# Altium schematic symbol library Harry_SCH_lib.SchLib: 167 symbols
Pins are listed as number, name and electrical type; pins without a type are passive.

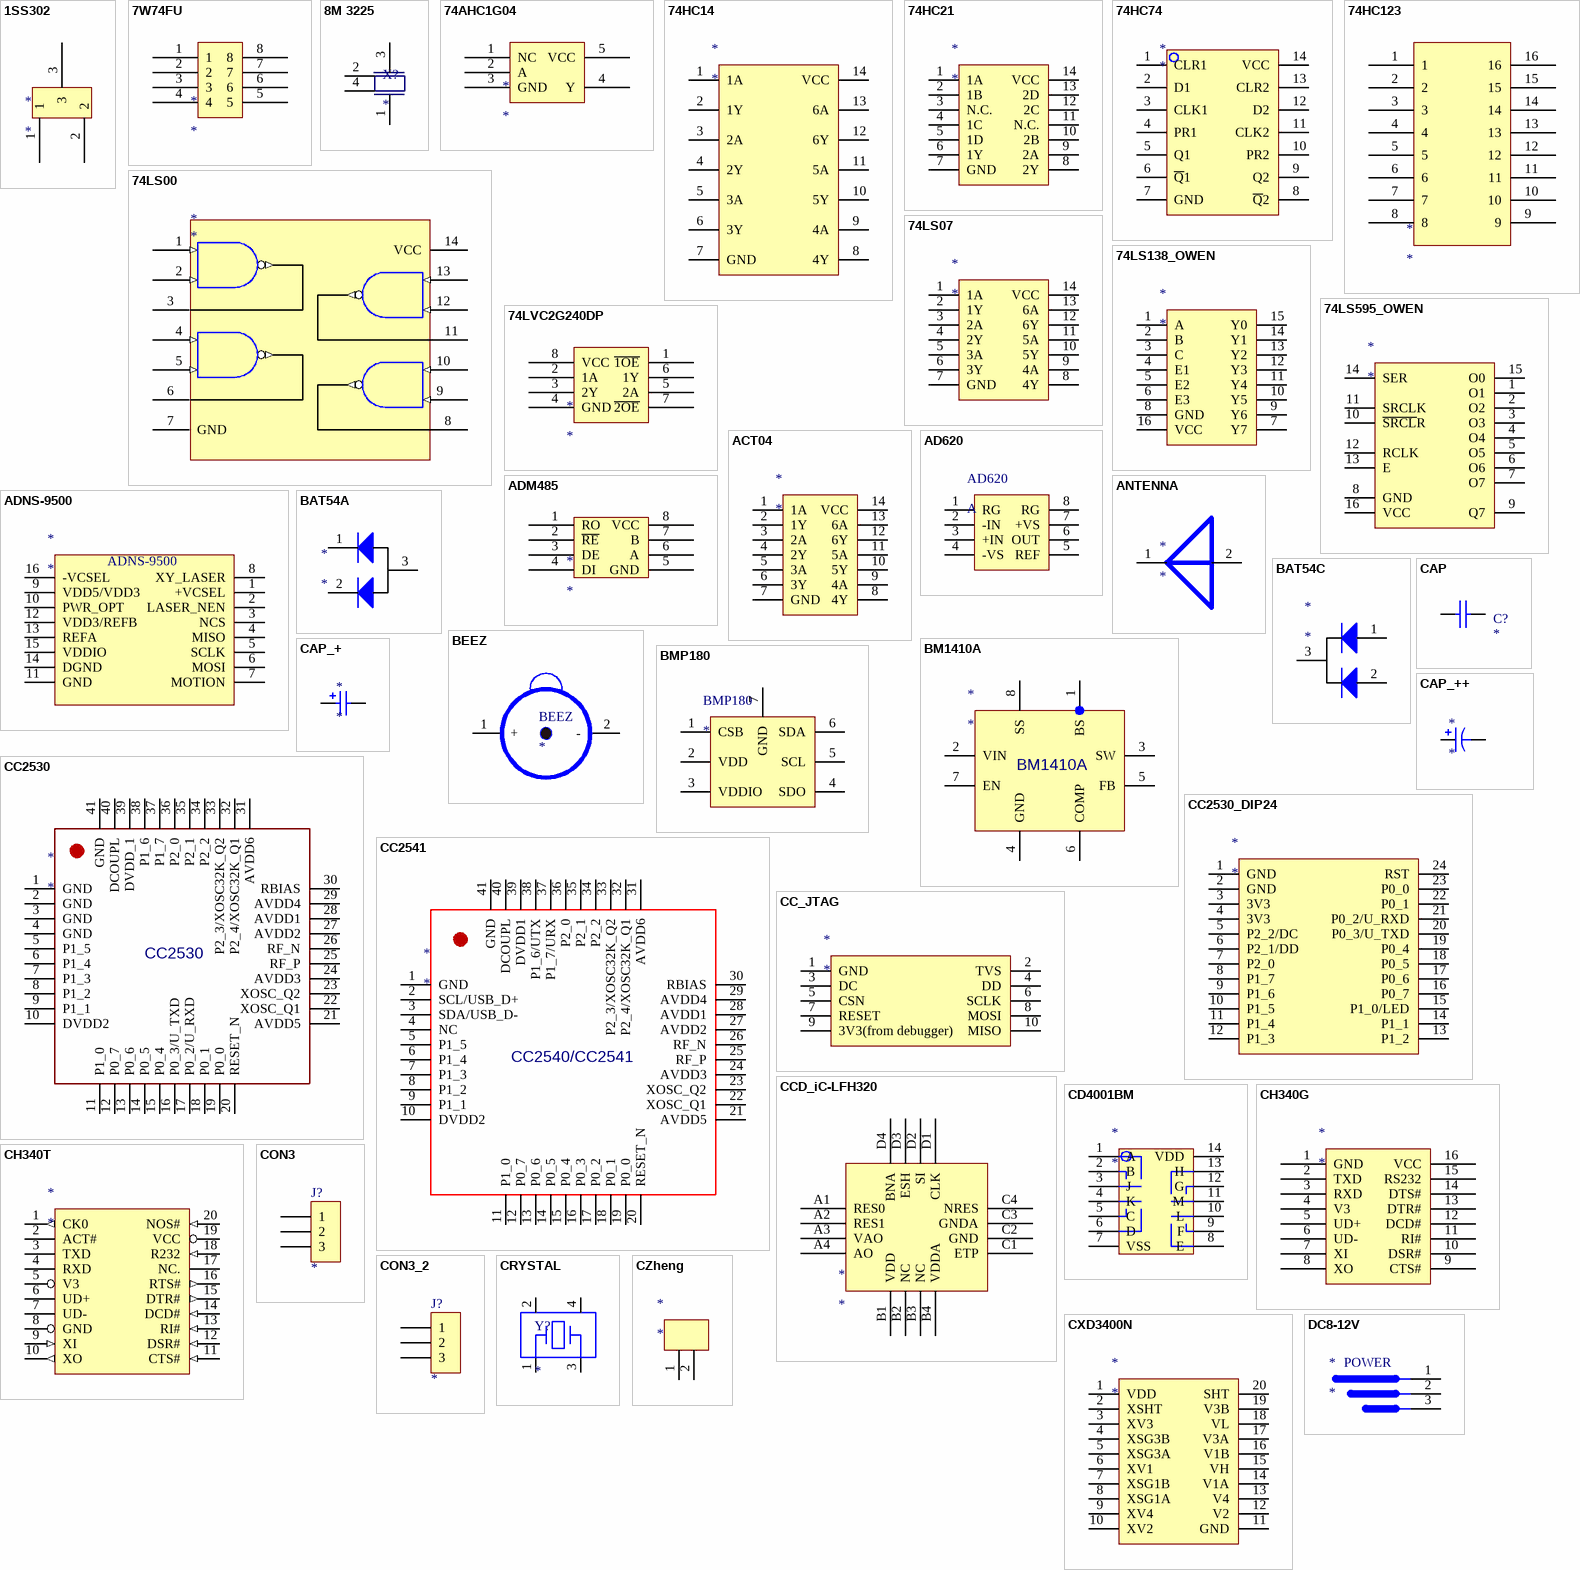
[diagram p0: symbols 1SS302 to DC8-12V]

## 1SS302
designator *
pins: 1, 2, 3

## 7W74FU
designator *
pins: 1, 2, 3, 4, 5, 6, 7, 8

## 8M 3225
designator X?
pins: 1, 2, 3, 4

## 74AHC1G04
designator *
pins: 1 NC, 2 A, 3 GND, 4 Y, 5 VCC

## 74HC14
designator *
footprint Model Name (Footprint not found)
pins: 1 1A, 2 1Y, 3 2A, 4 2Y, 5 3A, 6 3Y, 7 GND, 8 4Y, 9 4A, 10 5Y, 11 5A, 12 6Y, 13 6A, 14 VCC

## 74HC21
designator *
footprint SOP-14
pins: 1 1A, 2 1B, 3 N.C., 4 1C, 5 1D, 6 1Y, 7 GND, 8 2Y, 9 2A, 10 2B, 11 N.C., 12 2C, 13 2D, 14 VCC

## 74HC74
designator *
footprint Model Name (Footprint not found)
pins: 1 CLR1, 2 D1, 3 CLK1, 4 PR1, 5 Q1, 6 ~{Q}1, 7 GND, 8 ~{Q}2, 9 Q2, 10 PR2, 11 CLK2, 12 D2, 13 CLR2, 14 VCC

## 74HC123
designator *
pins: 1, 2, 3, 4, 5, 6, 7, 8, 9, 10, 11, 12, 13, 14, 15, 16

## 74LS00
designator *
footprint Model Name (Footprint not found)
pins: 1 (in), 2 (in), 3 6.5, 4 (in), 5 (in), 6, 7 GND, 8, 9 (in), 10 (in), 11, 12 (in), 13 (in), 14 VCC, ?1 (out), ?2 (out), ?3 (out), ?4 (out)

## 74LS07
designator *
pins: 1 1A, 2 1Y, 3 2A, 4 2Y, 5 3A, 6 3Y, 7 GND, 8 4Y, 9 4A, 10 5Y, 11 5A, 12 6Y, 13 6A, 14 VCC

## 74LS138_OWEN
designator *
footprint Model Name (Footprint not found)
pins: 1 A, 2 B, 3 C, 4 E1, 5 E2, 6 E3, 7 Y7, 8 GND, 9 Y6, 10 Y5, 11 Y4, 12 Y3, 13 Y2, 14 Y1, 15 Y0, 16 VCC

## 74LS595_OWEN
designator *
footprint Model Name (Footprint not found)
pins: 1 O1, 2 O2, 3 O3, 4 O4, 5 O5, 6 O6, 7 O7, 8 GND, 9 Q7, 10 ~{SRCL}R, 11 SRCLK, 12 RCLK, 13 E, 14 SER, 15 O0, 16 VCC

## 74LVC2G240DP
designator *
pins: 1 ~{1OE}, 2 1A, 3 2Y, 4 GND, 5 2A, 6 1Y, 7 ~{2OE}, 8 VCC

## ACT04
designator *
pins: 1 1A, 2 1Y, 3 2A, 4 2Y, 5 3A, 6 3Y, 7 GND, 8 4Y, 9 4A, 10 5Y, 11 5A, 12 6Y, 13 6A, 14 VCC

## AD620
designator AD620, comment A
pins: 1 RG, 2 -IN, 3 +IN, 4 -VS, 5 REF, 6 OUT, 7 +VS, 8 RG

## ADM485
designator *
pins: 1 RO, 2 ~{RE}, 3 DE, 4 DI, 5 GND, 6 A, 7 B, 8 VCC

## ADNS-9500
designator *
pins: 1 +VCSEL, 2 LASER_NEN, 3 NCS, 4 MISO, 5 SCLK, 6 MOSI, 7 MOTION, 8 XY_LASER, 9 VDD5/VDD3, 10 PWR_OPT, 11 GND, 12 VDD3/REFB, 13 REFA, 14 DGND, 15 VDDIO, 16 -VCSEL

## ANTENNA
designator *
pins: 1, 2

## BAT54A
designator *
pins: 1 Anode, 2 Anode, 3 Cathode

## BAT54C
designator *
pins: 1 Anode, 2 Anode, 3 Cathode

## BEEZ
designator BEEZ
pins: 1 +, 2 -

## BM1410A
designator *
pins: 1 BS, 2 VIN, 3 SW, 4 GND, 5 FB, 6 COMP, 7 EN, 8 SS

## BMP180
designator BMP180
pins: 1 CSB, 2 VDD, 3 VDDIO, 4 SDO, 5 SCL, 6 SDA, 7 GND

## CAP
designator C?
Capacitor
footprint Model Name (Footprint not found)
pins: 1, 2

## CAP_+
designator *
footprint Model Name (Footprint not found)
pins: 1, 2

## CAP_++
designator *
footprint Model Name (Footprint not found)
pins: 1, 2

## CC2530
designator *
pins: 1 GND, 2 GND, 3 GND, 4 GND, 5 P1_5, 6 P1_4, 7 P1_3, 8 P1_2, 9 P1_1, 10 DVDD2, 11 P1_0, 12 P0_7, 13 P0_6, 14 P0_5, 15 P0_4, 16 P0_3/U_TXD, 17 P0_2/U_RXD, 18 P0_1, 19 P0_0, 20 RESET_N, 21 AVDD5, 22 XOSC_Q1, 23 XOSC_Q2, 24 AVDD3, 25 RF_P, 26 RF_N, 27 AVDD2, 28 AVDD1, 29 AVDD4, 30 RBIAS, 31 AVDD6, 32 P2_4/XOSC32K_Q1, 33 P2_3/XOSC32K_Q2, 34 P2_2, 35 P2_1, 36 P2_0, 37 P1_7, 38 P1_6, 39 DVDD_1, 40 DCOUPL, 41 GND

## CC2530_DIP24
designator *
footprint CC2530PA_DIP24
pins: 1 GND, 2 GND, 3 3V3, 4 3V3, 5 P2_2/DC, 6 P2_1/DD, 7 P2_0, 8 P1_7, 9 P1_6, 10 P1_5, 11 P1_4, 12 P1_3, 13 P1_2, 14 P1_1, 15 P1_0/LED, 16 P0_7, 17 P0_6, 18 P0_5, 19 P0_4, 20 P0_3/U_TXD, 21 P0_2/U_RXD, 22 P0_1, 23 P0_0, 24 RST

## CC2541
designator *
pins: 1 GND, 2 SCL/USB_D+, 3 SDA/USB_D-, 4 NC, 5 P1_5, 6 P1_4, 7 P1_3, 8 P1_2, 9 P1_1, 10 DVDD2, 11 P1_0, 12 P0_7, 13 P0_6, 14 P0_5, 15 P0_4, 16 P0_3, 17 P0_2, 18 P0_1, 19 P0_0, 20 RESET_N, 21 AVDD5, 22 XOSC_Q1, 23 XOSC_Q2, 24 AVDD3, 25 RF_P, 26 RF_N, 27 AVDD2, 28 AVDD1, 29 AVDD4, 30 RBIAS, 31 AVDD6, 32 P2_4/XOSC32K_Q1, 33 P2_3/XOSC32K_Q2, 34 P2_2, 35 P2_1, 36 P2_0, 37 P1_7/URX, 38 P1_6/UTX, 39 DVDD1, 40 DCOUPL, 41 GND
text: CC2540/CC2541

## CC_JTAG
designator *
pins: 1 GND, 2 TVS, 3 DC, 4 DD, 5 CSN, 6 SCLK, 7 RESET, 8 MOSI, 9 3V3(from debugger), 10 MISO

## CCD_iC-LFH320
designator *
pins: A1 RES0, A2 RES1, A3 VAO, A4 AO, B1 VDD, B2 NC, B3 NC, B4 VDDA, C1 ETP, C2 GND, C3 GNDA, C4 NRES, D1 CLK, D2 SI, D3 ESH, D4 BNA

## CD4001BM
designator *
pins: 1 A, 2 B, 3 J, 4 K, 5 C, 6 D, 7 VSS, 8 E, 9 F, 10 L, 11 M, 12 G, 13 H, 14 VDD

## CH340G
designator *
pins: 1 GND, 2 TXD, 3 RXD, 4 V3, 5 UD+, 6 UD-, 7 XI, 8 XO, 9 CTS#, 10 DSR#, 11 RI#, 12 DCD#, 13 DTR#, 14 DTS#, 15 RS232, 16 VCC

## CH340T
designator *
pins: 1 CK0 (out), 2 ACT#, 3 TXD, 4 RXD, 5 V3 (power), 6 UD+, 7 UD-, 8 GND (power), 9 XI (in), 10 XO (out), 11 CTS# (in), 12 DSR# (in), 13 RI# (in), 14 DCD# (in), 15 DTR# (out), 16 RTS# (out), 17 NC., 18 R232 (in), 19 VCC (power), 20 NOS# (in)

## CON3
designator J?
Connector
pins: 1, 2, 3

## CON3_2
designator J?
Connector
pins: 1, 2, 3

## CRYSTAL
designator Y?
Crystal
pins: 1, 2, 3, 4

## CXD3400N
designator *
pins: 1 VDD, 2 XSHT, 3 XV3, 4 XSG3B, 5 XSG3A, 6 XV1, 7 XSG1B, 8 XSG1A, 9 XV4, 10 XV2, 11 GND, 12 V2, 13 V4, 14 V1A, 15 VH, 16 V1B, 17 V3A, 18 VL, 19 V3B, 20 SHT

## CZheng
designator *
pins: 1 28, 2 29

## DC8-12V
designator *
pins: 1, 2, 3
text: POWER

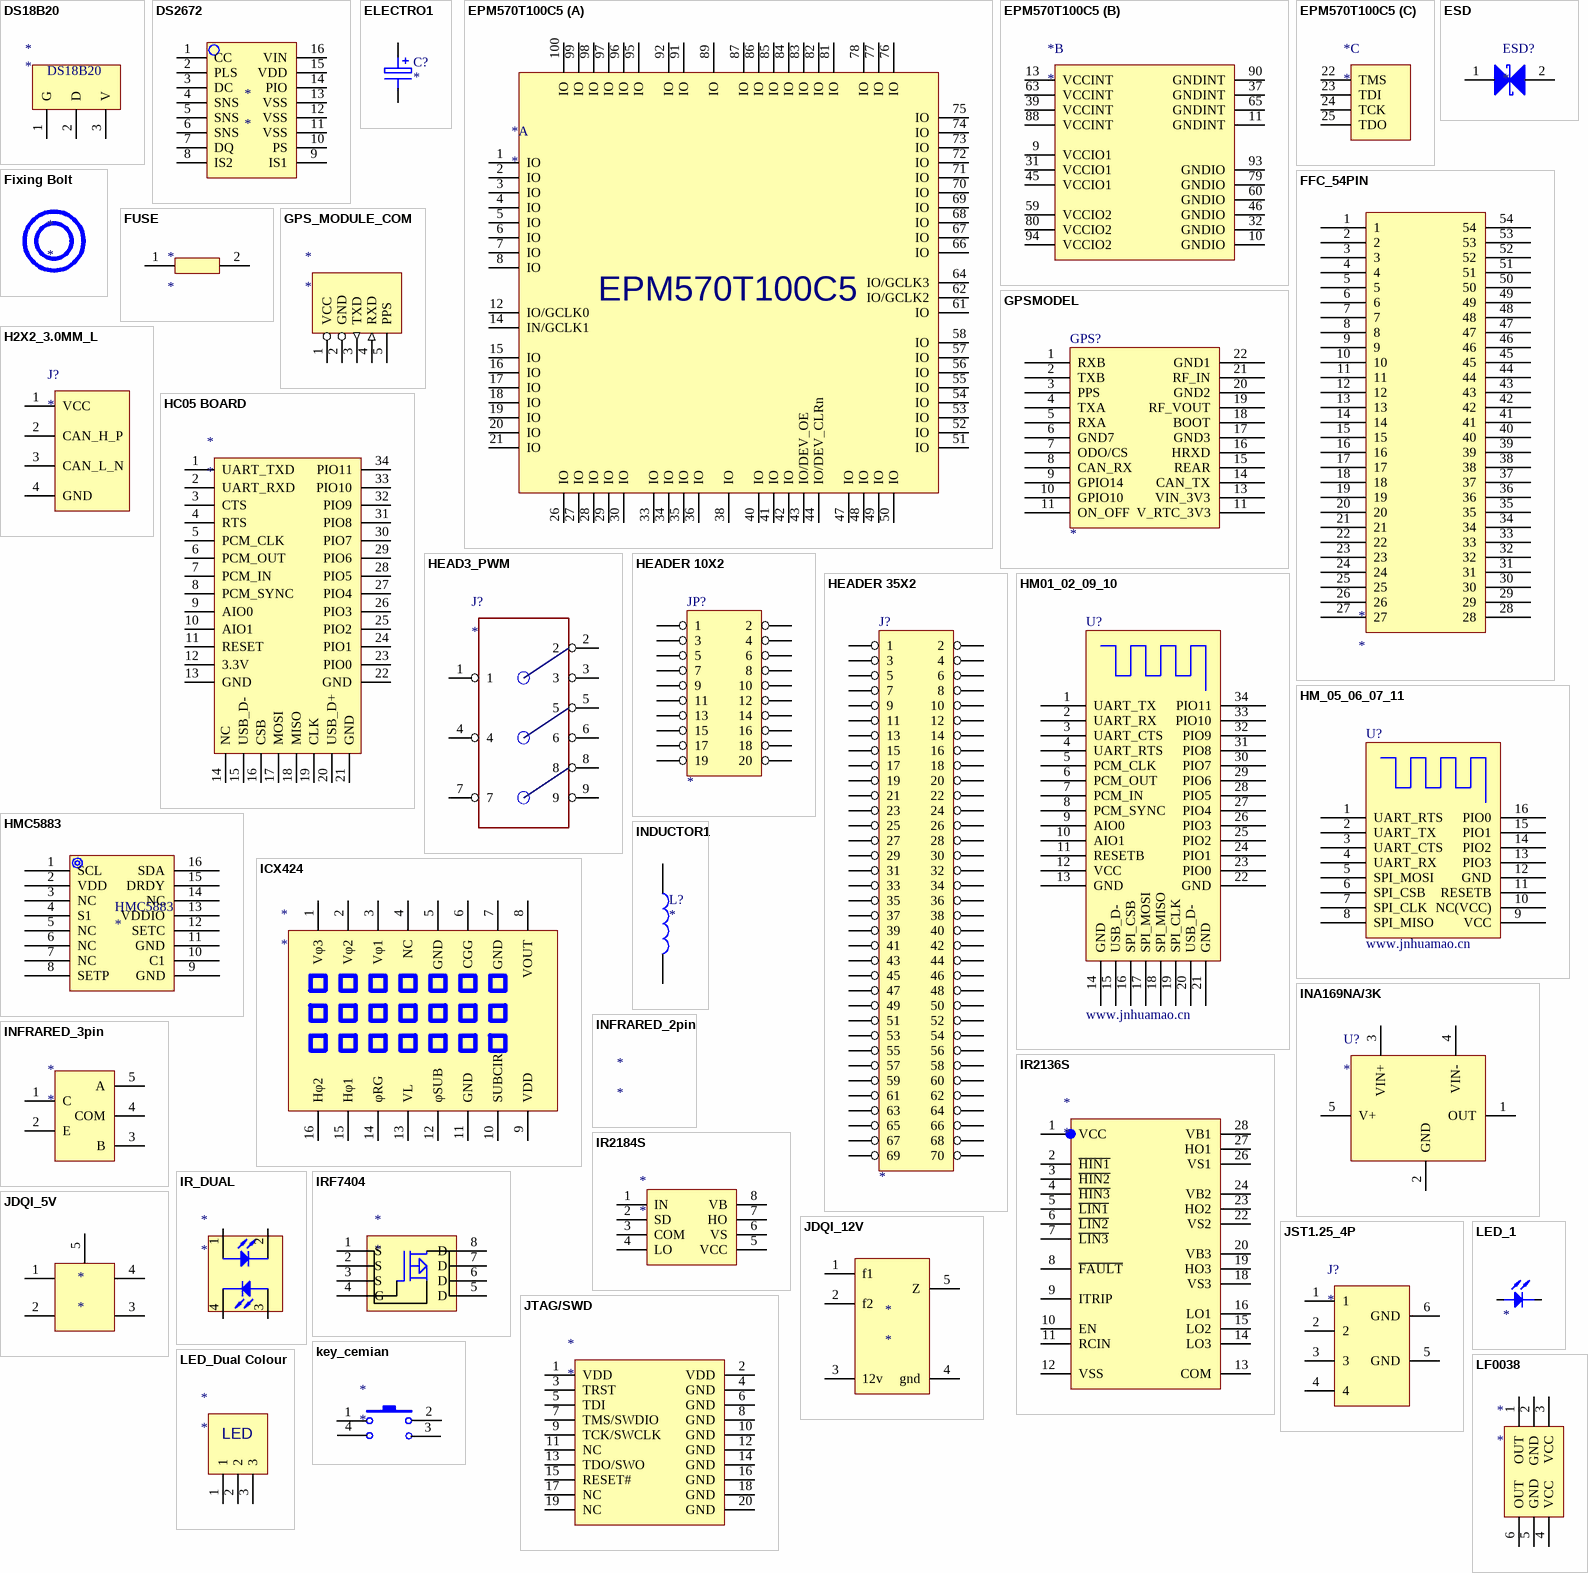
[diagram p1: symbols DS18B20 to LF0038]

## DS18B20
designator *
pins: 1 G, 2 D, 3 V

## DS2672
designator *
pins: 1 CC, 2 PLS, 3 DC, 4 SNS, 5 SNS, 6 SNS, 7 DQ, 8 IS2, 9 IS1, 10 PS, 11 VSS, 12 VSS, 13 VSS, 14 PIO, 15 VDD, 16 VIN

## ELECTRO1
designator C?
Electrolytic Capacitor
pins: 1, 2

## EPM570T100C5
designator *
part A pins: 1 IO, 2 IO, 3 IO, 4 IO, 5 IO, 6 IO, 7 IO, 8 IO, 12 IO/GCLK0, 14 IN/GCLK1, 15 IO, 16 IO, 17 IO, 18 IO, 19 IO, 20 IO, 21 IO, 26 IO, 27 IO, 28 IO, 29 IO, 30 IO, 33 IO, 34 IO, 35 IO, 36 IO, 38 IO, 40 IO, 41 IO, 42 IO, 43 IO/DEV_OE, 44 IO/DEV_CLRn, 47 IO, 48 IO, 49 IO, 50 IO, 51 IO, 52 IO, 53 IO, 54 IO, 55 IO, 56 IO, 57 IO, 58 IO, 61 IO, 62 IO/GCLK2, 64 IO/GCLK3, 66 IO, 67 IO, 68 IO, 69 IO, 70 IO, 71 IO, 72 IO, 73 IO, 74 IO, 75 IO, 76 IO, 77 IO, 78 IO, 81 IO, 82 IO, 83 IO, 84 IO, 85 IO, 86 IO, 87 IO, 89 IO, 91 IO, 92 IO, 95 IO, 96 IO, 97 IO, 98 IO, 99 IO, 100 IO
part B pins: 9 VCCIO1, 10 GNDIO, 11 GNDINT, 13 VCCINT, 31 VCCIO1, 32 GNDIO, 37 GNDINT, 39 VCCINT, 45 VCCIO1, 46 GNDIO, 59 VCCIO2, 60 GNDIO, 63 VCCINT, 65 GNDINT, 79 GNDIO, 80 VCCIO2, 88 VCCINT, 90 GNDINT, 93 GNDIO, 94 VCCIO2
part C pins: 22 TMS, 23 TDI, 24 TCK, 25 TDO

## ESD
designator ESD?
pins: 1, 2

## FFC_54PIN
designator *
pins: 1, 2, 3, 4, 5, 6, 7, 8, 9, 10, 11, 12, 13, 14, 15, 16, 17, 18, 19, 20, 21, 22, 23, 24, 25, 26, 27, 28, 29, 30, 31, 32, 33, 34, 35, 36, 37, 38, 39, 40, 41, 42, 43, 44, 45, 46, 47, 48, 49, 50, 51, 52, 53, 54

## Fixing Bolt
designator *

## FUSE
designator *
pins: 1 26, 2 27

## GPS_MODULE_COM
designator *
pins: 1 VCC (power), 2 GND, 3 TXD (out), 4 RXD (in), 5 PPS

## GPSMODEL
designator GPS?
GPSMODEL
pins: 1 RXB, 2 TXB, 3 PPS, 4 TXA, 5 RXA, 6 GND7, 7 ODO/CS, 8 CAN_RX, 9 GPIO14, 10 GPIO10, 11 V_RTC_3V3, 11 ON_OFF, 13 VIN_3V3, 14 CAN_TX, 15 REAR, 16 HRXD, 17 GND3, 18 BOOT, 19 RF_VOUT, 20 GND2, 21 RF_IN, 22 GND1

## H2X2_3.0MM_L
designator J?
pins: 1 VCC, 2 CAN_H_P, 3 CAN_L_N, 4 GND

## HC05 BOARD
designator *
pins: 1 UART_TXD, 2 UART_RXD, 3 CTS, 4 RTS, 5 PCM_CLK, 6 PCM_OUT, 7 PCM_IN, 8 PCM_SYNC, 9 AIO0, 10 AIO1, 11 RESET, 12 3.3V, 13 GND, 14 NC, 15 USB_D-, 16 CSB, 17 MOSI, 18 MISO, 19 CLK, 20 USB_D+, 21 GND, 22 GND, 23 PIO0, 24 PIO1, 25 PIO2, 26 PIO3, 27 PIO4, 28 PIO5, 29 PIO6, 30 PIO7, 31 PIO8, 32 PIO9, 33 PIO10, 34 PIO11

## HEAD3_PWM
designator J?
pins: 1, 2, 3, 4, 5, 6, 7, 8, 9

## HEADER 10X2
designator JP?
pins: 1, 2, 3, 4, 5, 6, 7, 8, 9, 10, 11, 12, 13, 14, 15, 16, 17, 18, 19, 20

## HEADER 35X2
designator J?
footprint DIP70
pins: 1, 2, 3, 4, 5, 6, 7, 8, 9, 10, 11, 12, 13, 14, 15, 16, 17, 18, 19, 20, 21, 22, 23, 24, 25, 26, 27, 28, 29, 30, 31, 32, 33, 34, 35, 36, 37, 38, 39, 40, 41, 42, 43, 44, 45, 46, 47, 48, 49, 50, 51, 52, 53, 54, 55, 56, 57, 58, 59, 60, 61, 62, 63, 64, 65, 66, 67, 68, 69, 70

## HM01_02_09_10
designator U?, comment www.jnhuamao.cn
HM bluetooth module HM-01,HM-02,HM-09,HM-10
pins: 1 UART_TX, 2 UART_RX, 3 UART_CTS, 4 UART_RTS, 5 PCM_CLK, 6 PCM_OUT, 7 PCM_IN, 8 PCM_SYNC, 9 AIO0, 10 AIO1, 11 RESETB, 12 VCC, 13 GND, 14 GND, 15 USB_D-, 16 SPI_CSB, 17 SPI_MOSI, 18 SPI_MISO, 19 SPI_CLK, 20 USB_D-, 21 GND, 22 GND, 23 PIO0, 24 PIO1, 25 PIO2, 26 PIO3, 27 PIO4, 28 PIO5, 29 PIO6, 30 PIO7, 31 PIO8, 32 PIO9, 33 PIO10, 34 PIO11

## HM_05_06_07_11
designator U?, comment www.jnhuamao.cn
HM bluetooth module HM-05,HM-06,HM-07, HM-11
pins: 1 UART_RTS, 2 UART_TX, 3 UART_CTS, 4 UART_RX, 5 SPI_MOSI, 6 SPI_CSB, 7 SPI_CLK, 8 SPI_MISO, 9 VCC, 10 NC(VCC), 11 RESETB, 12 GND, 13 PIO3, 14 PIO2, 15 PIO1, 16 PIO0

## HMC5883
designator HMC5883
pins: 1 SCL, 2 VDD, 3 NC, 4 S1, 5 NC, 6 NC, 7 NC, 8 SETP, 9 GND, 10 C1, 11 GND, 12 SETC, 13 VDDIO, 14 NC, 15 DRDY, 16 SDA

## ICX424
designator *
pins: 1 Vφ3, 2 Vφ2, 3 Vφ1, 4 NC, 5 GND, 6 CGG, 7 GND, 8 VOUT, 9 VDD, 10 SUBCIR, 11 GND, 12 φSUB, 13 VL, 14 φRG, 15 Hφ1, 16 Hφ2

## INA169NA/3K
designator U?
pins: 1 OUT, 2 GND, 3 VIN+, 4 VIN-, 5 V+

## INDUCTOR1
designator L?
pins: 1, 2

## INFRARED_2pin
designator *

## INFRARED_3pin
designator *
pins: 1 C, 2 E, 3 B, 4 COM, 5 A

## IR2136S
designator *
pins: 1 VCC, 2 ~{HIN1}, 3 ~{HIN2}, 4 ~{HIN3}, 5 ~{LIN1}, 6 ~{LIN2}, 7 ~{LIN3}, 8 ~{FAULT}, 9 ITRIP, 10 EN, 11 RCIN, 12 VSS, 13 COM, 14 LO3, 15 LO2, 16 LO1, 18 VS3, 19 HO3, 20 VB3, 22 VS2, 23 HO2, 24 VB2, 26 VS1, 27 HO1, 28 VB1

## IR2184S
designator *
pins: 1 IN, 2 SD, 3 COM, 4 LO, 5 VCC, 6 VS, 7 HO, 8 VB

## IR_DUAL
designator *
pins: 1 A, 2 K, 3 A, 4 K

## IRF7404
designator *
pins: 1 S, 2 S, 3 S, 4 G, 5 D, 6 D, 7 D, 8 D

## JDQI_5V
designator *
pins: 1 22, 2 24, 3 25, 4 21, 5 23

## JDQI_12V
designator *
pins: 1 f1, 2 f2, 3 12v, 4 gnd, 5 Z

## JST1.25_4P
designator J?
pins: 1, 2, 3, 4, 5 GND, 6 GND

## JTAG/SWD
designator *
pins: 1 VDD, 2 VDD, 3 TRST, 4 GND, 5 TDI, 6 GND, 7 TMS/SWDIO, 8 GND, 9 TCK/SWCLK, 10 GND, 11 NC, 12 GND, 13 TDO/SWO, 14 GND, 15 RESET#, 16 GND, 17 NC, 18 GND, 19 NC, 20 GND

## key_cemian
designator *
pins: 1, 2, 3, 4

## LED_1
designator ?
pins: 1, 2

## LED_Dual Colour
designator *
pins: 1, 2, 3
text: LED

## LF0038
designator *
footprint INF_DUAL
pins: 1 OUT, 2 GND, 3 VCC, 4 VCC, 5 GND, 6 OUT

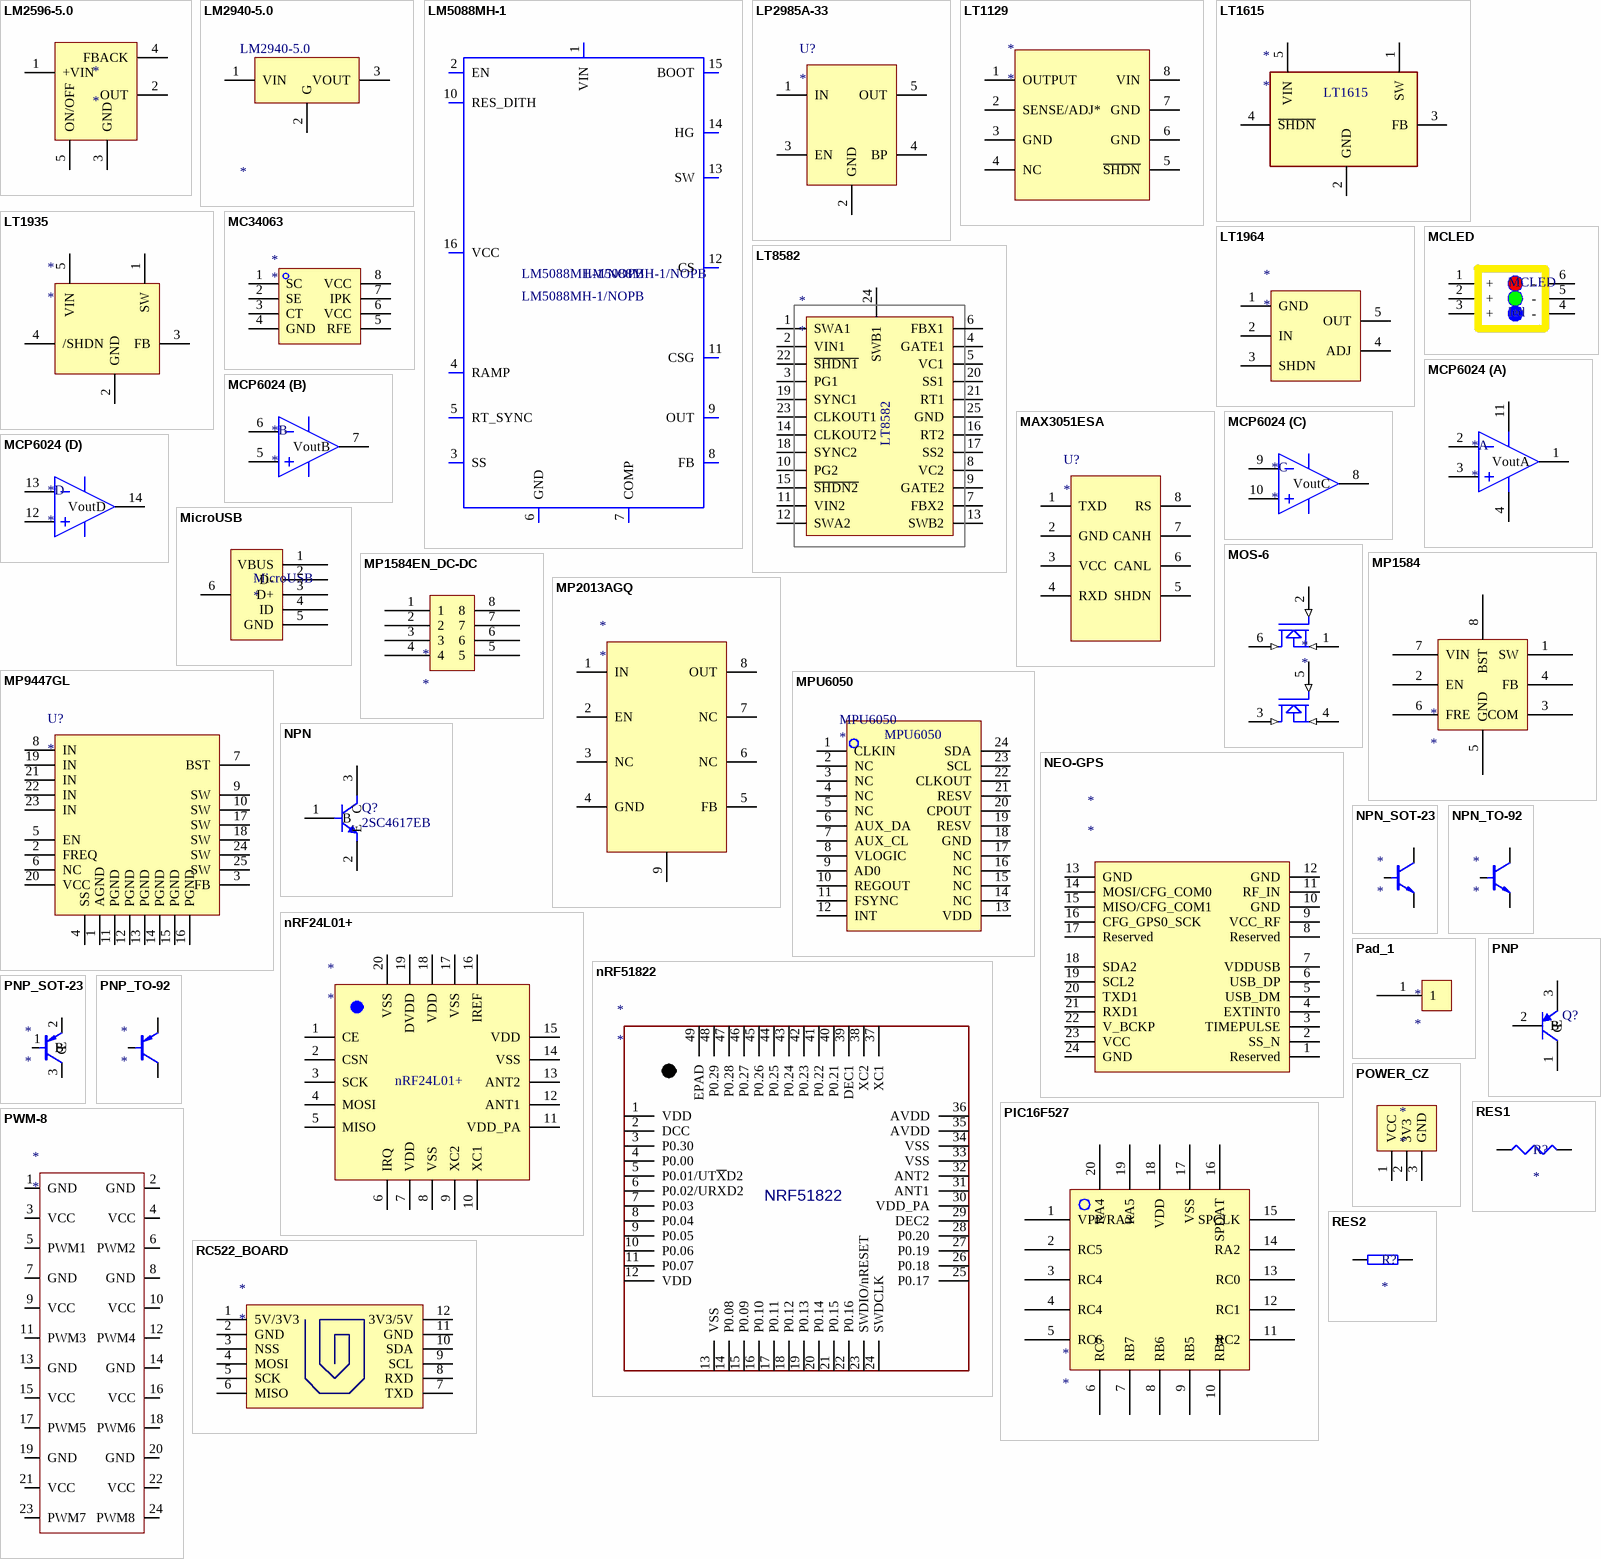
[diagram p2: symbols LM2596-5.0 to RES2]

## LM2596-5.0
designator *
pins: 1 +VIN, 2 OUT, 3 GND, 4 FBACK, 5 ON/OFF

## LM2940-5.0
designator LM2940-5.0
pins: 1 VIN, 2 G, 3 VOUT

## LM5088MH-1
designator LM5088MH-1/NOPB, comment LM5088MH-1/NOPB
Manufacturer Name: Texas Instruments; Manufacturer Part Number: LM5088MH-1/NOPB; Value: N/A; PackageReference: LM5088MH-1/NOPB
pins: 1 VIN, 2 EN, 3 SS, 4 RAMP, 5 RT_SYNC, 6 GND, 7 COMP, 8 FB, 9 OUT, 10 RES_DITH, 11 CSG, 12 CS, 13 SW, 14 HG, 15 BOOT, 16 VCC, 17 EP

## LP2985A-33
designator U?
pins: 1 IN, 2 GND, 3 EN, 4 BP, 5 OUT

## LT1129
designator *
pins: 1 OUTPUT, 2 SENSE/ADJ*, 3 GND, 4 NC, 5 ~{SHDN}, 6 GND, 7 GND, 8 VIN

## LT1615
designator *
pins: 1 SW, 2 GND, 3 FB, 4 ~{SHDN}, 5 VIN

## LT1935
designator *
pins: 1 SW, 2 GND, 3 FB, 4 /SHDN, 5 VIN

## LT1964
designator *
pins: 1 GND, 2 IN, 3 SHDN, 4 ADJ, 5 OUT

## LT8582
designator *
pins: 1 SWA1, 2 VIN1, 3 PG1, 4 GATE1, 5 VC1, 6 FBX1, 7 FBX2, 8 VC2, 9 GATE2, 10 PG2, 11 VIN2, 12 SWA2, 13 SWB2, 14 CLKOUT2, 15 ~{SHDN2}, 16 RT2, 17 SS2, 18 SYNC2, 19 SYNC1, 20 SS1, 21 RT1, 22 ~{SHDN1}, 23 CLKOUT1, 24 SWB1, 25 GND

## MAX3051ESA
designator U?
pins: 1 TXD, 2 GND, 3 VCC, 4 RXD, 5 SHDN, 6 CANL, 7 CANH, 8 RS

## MC34063
designator *
pins: 1 SC, 2 SE, 3 CT, 4 GND, 5 RFE, 6 VCC, 7 IPK, 8 VCC

## MCLED
designator MCLED, comment led
pins: 1 +, 2 +, 3 +, 4 -, 5 -, 6 -

## MCP6024
designator *
part A pins: 1 VoutA, 2 VinA-, 3 VinA+, 4 VDD, 11 VSS
part B pins: 5 VinB+, 6 VinB-, 7 VoutB
part C pins: 8 VoutC, 9 VinC-, 10 VinC+
part D pins: 12 VinD+, 13 VinD-, 14 VoutD

## MicroUSB
designator MicroUSB
pins: 1 VBUS, 2 D-, 3 D+, 4 ID, 5 GND, 6

## MOS-6
designator *
pins: 1 S (in), 2 G (in), 3 D (in), 4 S (in), 5 G (in), 6 D (in)

## MP1584
designator *
pins: 1 SW, 2 EN, 3 COM, 4 FB, 5 GND, 6 FRE, 7 VIN, 8 BST

## MP1584EN_DC-DC
designator *
pins: 1, 2, 3, 4, 5, 6, 7, 8

## MP2013AGQ
designator *
pins: 1 IN, 2 EN, 3 NC, 4 GND, 5 FB, 6 NC, 7 NC, 8 OUT, 9

## MP9447GL
designator U?
pins: 1 AGND, 2 FREQ, 3 FB, 4 SS, 5 EN, 6 NC, 7 BST, 8 IN, 9 SW, 10 SW, 11 PGND, 12 PGND, 13 PGND, 14 PGND, 15 PGND, 16 PGND, 17 SW, 18 SW, 19 IN, 20 VCC, 21 IN, 22 IN, 23 IN, 24 SW, 25 SW

## MPU6050
designator MPU6050
pins: 1 CLKIN, 2 NC, 3 NC, 4 NC, 5 NC, 6 AUX_DA, 7 AUX_CL, 8 VLOGIC, 9 AD0, 10 REGOUT, 11 FSYNC, 12 INT, 13 VDD, 14 NC, 15 NC, 16 NC, 17 NC, 18 GND, 19 RESV, 20 CPOUT, 21 RESV, 22 CLKOUT, 23 SCL, 24 SDA

## NEO-GPS
designator *
pins: 1 Reserved, 2 SS_N, 3 TIMEPULSE, 4 EXTINT0, 5 USB_DM, 6 USB_DP, 7 VDDUSB, 8 Reserved, 9 VCC_RF, 10 GND, 11 RF_IN, 12 GND, 13 GND, 14 MOSI/CFG_COM0, 15 MISO/CFG_COM1, 16 CFG_GPS0_SCK, 17 Reserved, 18 SDA2, 19 SCL2, 20 TXD1, 21 RXD1, 22 V_BCKP, 23 VCC, 24 GND

## NPN
designator Q?, comment 2SC4617EB
NPN Bipolar Transistor; Published: 8-Jun-2000; LatestRevisionDate: 17-Jul-2002; LatestRevisionNote: Re-released for DXP Platform.; PackageReference: TO-226-AA; Publisher: Altium Limited; PackageDescription: TO, Flat Index; 3 In-Line, Axial Leads; Body Dia. 4.8mm; Leads 0.55 x 0.51 mm (max); Code_JEDEC: TO-226-AA
footprint LC-2SC4617-(SOT-523)
simulation model NPN
signal-integrity model NPN
pins: 1 B, 2 E, 3 C

## NPN_SOT-23
designator *
footprint SOT23
pins: 1 B, 2 E, 3 C

## NPN_TO-92
designator *
footprint SOT23
pins: 1 E, 2 B, 3 C

## nRF24L01+
designator *
pins: 1 CE, 2 CSN, 3 SCK, 4 MOSI, 5 MISO, 6 IRQ, 7 VDD, 8 VSS, 9 XC2, 10 XC1, 11 VDD_PA, 12 ANT1, 13 ANT2, 14 VSS, 15 VDD, 16 IREF, 17 VSS, 18 VDD, 19 DVDD, 20 VSS

## nRF51822
designator *
pins: 1 VDD, 2 DCC, 3 P0.30, 4 P0.00, 5 P0.01/UT~{X}D2, 6 P0.02/URXD2, 7 P0.03, 8 P0.04, 9 P0.05, 10 P0.06, 11 P0.07, 12 VDD, 13 VSS, 14 P0.08, 15 P0.09, 16 P0.10, 17 P0.11, 18 P0.12, 19 P0.13, 20 P0.14, 21 P0.15, 22 P0.16, 23 SWDIO/nRESET, 24 SWDCLK, 25 P0.17, 26 P0.18, 27 P0.19, 28 P0.20, 29 DEC2, 30 VDD_PA, 31 ANT1, 32 ANT2, 33 VSS, 34 VSS, 35 AVDD, 36 AVDD, 37 XC1, 38 XC2, 39 DEC1, 40 P0.21, 41 P0.22, 42 P0.23, 43 P0.24, 44 P0.25, 45 P0.26, 46 P0.27, 47 P0.28, 48 P0.29, 49 EPAD
text: NRF51822

## Pad_1
designator *
pins: 1

## PIC16F527
designator *
pins: 1 VPP/RA3, 2 RC5, 3 RC4, 4 RC4, 5 RC6, 6 RC7, 7 RB7, 8 RB6, 9 RB5, 10 RB4, 11 RC2, 12 RC1, 13 RC0, 14 RA2, 15 SPCLK, 16 SPDAT, 17 VSS, 18 VDD, 19 RA5, 20 RA4

## PNP
designator Q?
PNP Bipolar Transistor; Published: 8-Jun-2000; LatestRevisionDate: 29-May-2009; LatestRevisionNote: IPC-7351 Footprint Added.; PackageVersion: Aug-1999; PackageReference: SOT-23B; Publisher: Altium Limited; PackageDescription: 3-Pin SOT-23 Package 0.95 mm Pitch, 2.4 mm Lead Span
footprint SOT-23B_N (SOT23, 3-Leads, Body 2.9x1.3mm, Pitch 0.95mm, Lead Span 2.4mm, IPC Medium Density)
footprint SOT-23B_L (SOT23, 3-Leads, Body 2.9x1.3mm, Pitch 0.95mm, Lead Span 2.4mm, IPC High Density)
footprint SOT-23B_M (SOT23, 3-Leads, Body 2.9x1.3mm, Pitch 0.95mm, Lead Span 2.4mm, IPC Low Density)
simulation model PNP
signal-integrity model PNP
pins: 1 C, 2 B, 3 E

## PNP_SOT-23
designator *
footprint SOT23
pins: 1 B, 2 E, 3 C

## PNP_TO-92
designator *
footprint SOT23
pins: 1 E, 2 B, 3 C

## POWER_CZ
designator *
pins: 1 VCC, 2 3V3, 3 GND

## PWM-8
designator *
pins: 1 GND, 2 GND, 3 VCC, 4 VCC, 5 PWM1, 6 PWM2, 7 GND, 8 GND, 9 VCC, 10 VCC, 11 PWM3, 12 PWM4, 13 GND, 14 GND, 15 VCC, 16 VCC, 17 PWM5, 18 PWM6, 19 GND, 20 GND, 21 VCC, 22 VCC, 23 PWM7, 24 PWM8

## RC522_BOARD
designator *
pins: 1 5V/3V3, 2 GND, 3 NSS, 4 MOSI, 5 SCK, 6 MISO, 7 TXD, 8 RXD, 9 SCL, 10 SDA, 11 GND, 12 3V3/5V

## RES1
designator R?
footprint Model Name (Footprint not found)
pins: 1, 2

## RES2
designator R?
footprint Model Name (Footprint not found)
pins: 1, 2

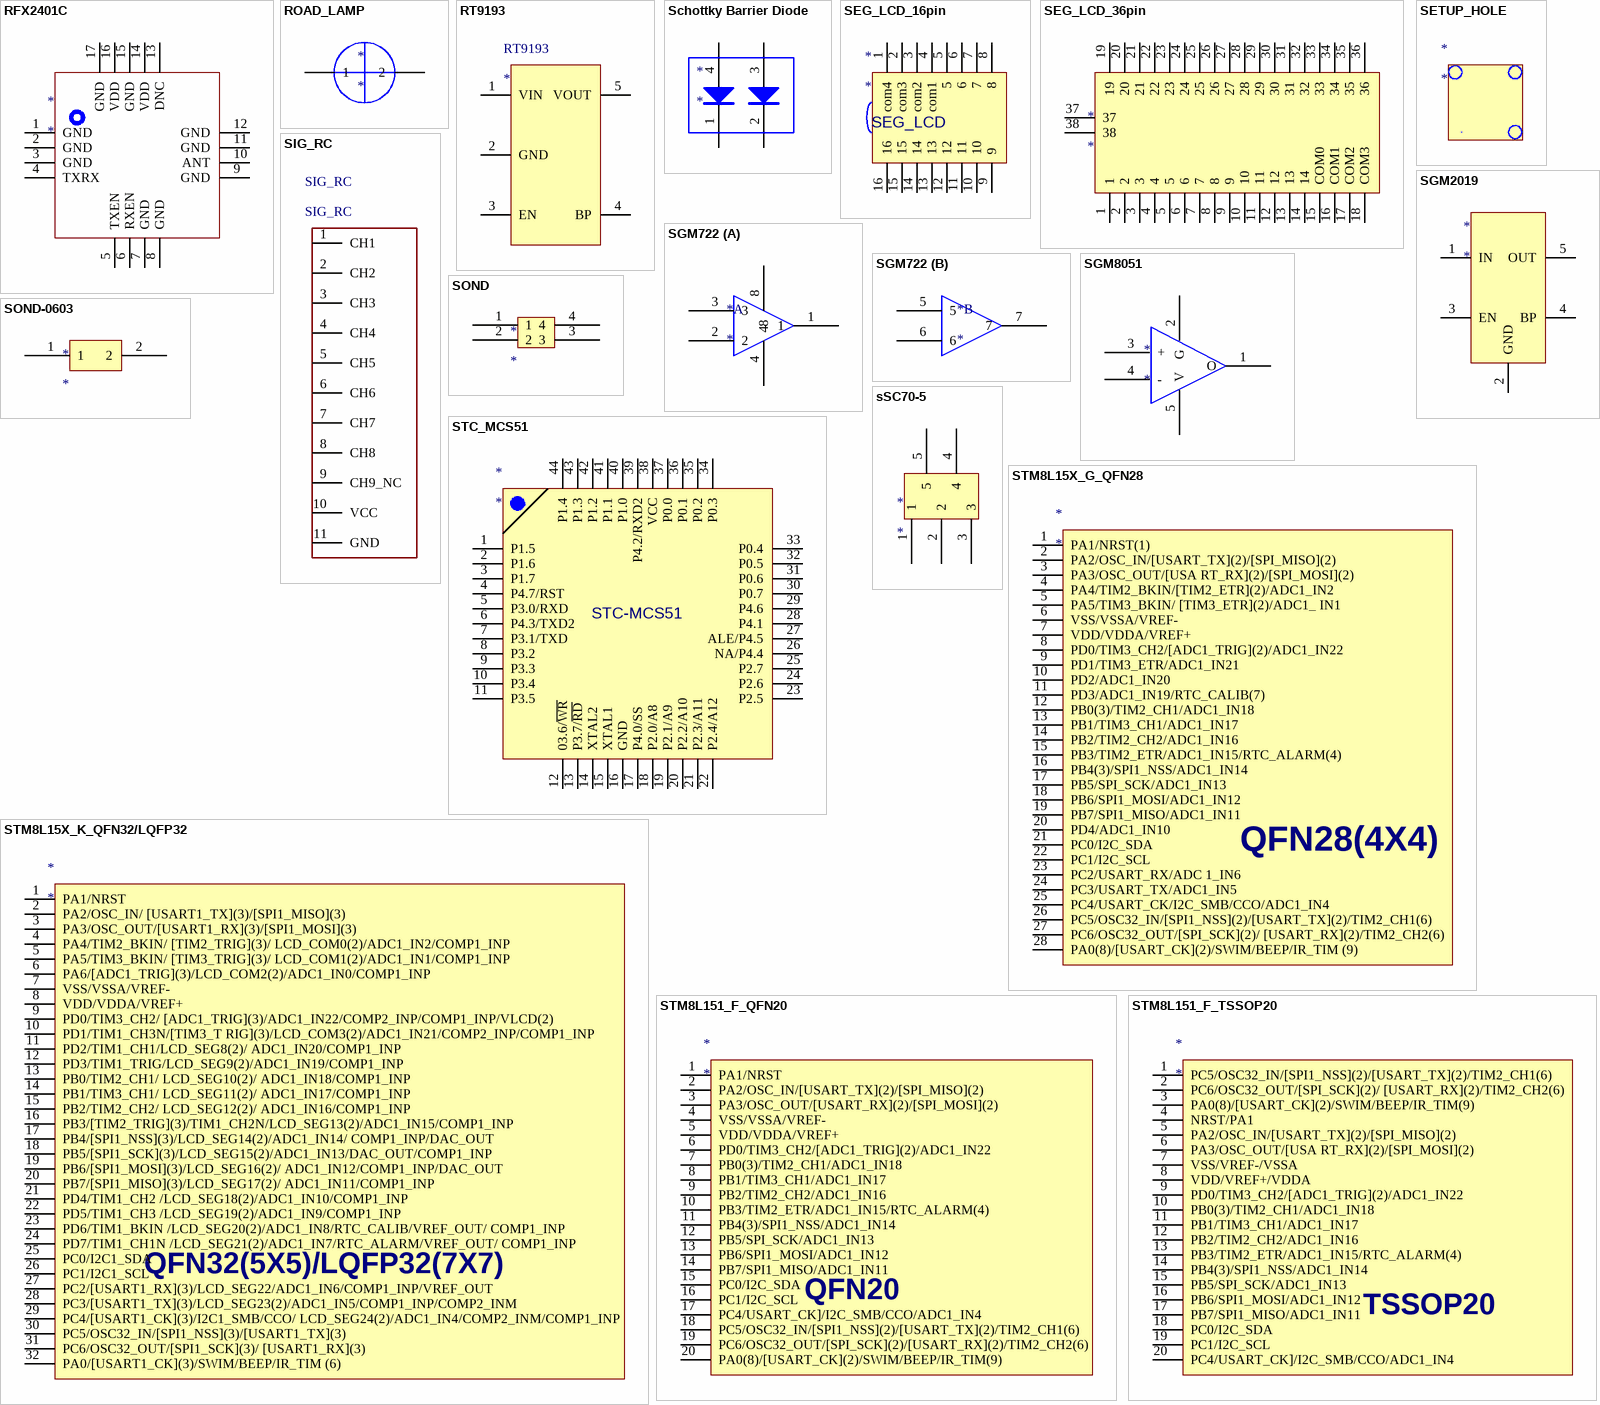
[diagram p3: symbols RFX2401C to STM8L151_F_TSSOP20]

## RFX2401C
designator *
pins: 1 GND, 2 GND, 3 GND, 4 TXRX, 5 TXEN, 6 RXEN, 7 GND, 8 GND, 9 GND, 10 ANT, 11 GND, 12 GND, 13 DNC, 14 VDD, 15 GND, 16 VDD, 17 GND

## ROAD_LAMP
designator *
pins: 1, 2

## RT9193
designator RT9193
pins: 1 VIN, 2 GND, 3 EN, 4 BP, 5 VOUT

## Schottky Barrier Diode
designator *
pins: 1, 2, 3, 4

## SEG_LCD_16pin
designator *
pins: 1 com4, 2 com3, 3 com2, 4 com1, 5, 6, 7, 8, 9, 10, 11, 12, 13, 14, 15, 16
text: SEG_LCD

## SEG_LCD_36pin
designator *
pins: 1, 2, 3, 4, 5, 6, 7, 8, 9, 10, 11, 12, 13, 14, 15 COM0, 16 COM1, 17 COM2, 18 COM3, 19, 20, 21, 22, 23, 24, 25, 26, 27, 28, 29, 30, 31, 32, 33, 34, 35, 36, 37, 38

## SETUP_HOLE
designator *

## SGM722
designator *
part A pins: 1, 2, 3, 4, 8
part B pins: 5, 6, 7

## SGM2019
designator *
pins: 1 IN, 2 GND, 3 EN, 4 BP, 5 OUT

## SGM8051
designator *
pins: 1 O, 2 G, 3 +, 4 -, 5 V

## SIG_RC
designator SIG_RC
footprint RECEIVER
pins: 1 CH1, 2 CH2, 3 CH3, 4 CH4, 5 CH5, 6 CH6, 7 CH7, 8 CH8, 9 CH9_NC, 10 VCC, 11 GND

## SOND
designator *
pins: 1, 2, 3, 4

## SOND-0603
designator *
pins: 1, 2

## sSC70-5
designator *
pins: 1, 2, 3, 4, 5

## STC_MCS51
designator *
pins: 1 P1.5, 2 P1.6, 3 P1.7, 4 P4.7/RST, 5 P3.0/RXD, 6 P4.3/TXD2, 7 P3.1/TXD, 8 P3.2, 9 P3.3, 10 P3.4, 11 P3.5, 12 03.6/~{WR}, 13 P3.7/~{RD}, 14 XTAL2, 15 XTAL1, 16 GND, 17 P4.0/SS, 18 P2.0/A8, 19 P2.1/A9, 20 P2.2/A10, 21 P2.3/A11, 22 P2.4/A12, 23 P2.5, 24 P2.6, 25 P2.7, 26 NA/P4.4, 27 ALE/P4.5, 28 P4.1, 29 P4.6, 30 P0.7, 31 P0.6, 32 P0.5, 33 P0.4, 34 P0.3, 35 P0.2, 36 P0.1, 37 P0.0, 38 VCC, 39 P4.2/RXD2, 40 P1.0, 41 P1.1, 42 P1.2, 43 P1.3, 44 P1.4
text: STC-MCS51

## STM8L15X_G_QFN28
designator *
pins: 1 PA1/NRST(1), 2 PA2/OSC_IN/[USART_TX](2)/[SPI_MISO](2), 3 PA3/OSC_OUT/[USA RT_RX](2)/[SPI_MOSI](2), 4 PA4/TIM2_BKIN/[TIM2_ETR](2)/ADC1_IN2, 5 PA5/TIM3_BKIN/ [TIM3_ETR](2)/ADC1_ IN1, 6 VSS/VSSA/VREF-, 7 VDD/VDDA/VREF+, 8 PD0/TIM3_CH2/[ADC1_TRIG](2)/ADC1_IN22, 9 PD1/TIM3_ETR/ADC1_IN21, 10 PD2/ADC1_IN20, 11 PD3/ADC1_IN19/RTC_CALIB(7), 12 PB0(3)/TIM2_CH1/ADC1_IN18, 13 PB1/TIM3_CH1/ADC1_IN17, 14 PB2/TIM2_CH2/ADC1_IN16, 15 PB3/TIM2_ETR/ADC1_IN15/RTC_ALARM(4), 16 PB4(3)/SPI1_NSS/ADC1_IN14, 17 PB5/SPI_SCK/ADC1_IN13, 18 PB6/SPI1_MOSI/ADC1_IN12, 19 PB7/SPI1_MISO/ADC1_IN11, 20 PD4/ADC1_IN10, 21 PC0/I2C_SDA, 22 PC1/I2C_SCL, 23 PC2/USART_RX/ADC 1_IN6, 24 PC3/USART_TX/ADC1_IN5, 25 PC4/USART_CK/I2C_SMB/CCO/ADC1_IN4, 26 PC5/OSC32_IN/[SPI1_NSS](2)/[USART_TX](2)/TIM2_CH1(6), 27 PC6/OSC32_OUT/[SPI_SCK](2)/ [USART_RX](2)/TIM2_CH2(6), 28 PA0(8)/[USART_CK](2)/SWIM/BEEP/IR_TIM (9)
text: QFN28(4X4)

## STM8L15X_K_QFN32/LQFP32
designator *
pins: 1 PA1/NRST, 2 PA2/OSC_IN/ [USART1_TX](3)/[SPI1_MISO](3), 3 PA3/OSC_OUT/[USART1_RX](3)/[SPI1_MOSI](3), 4 PA4/TIM2_BKIN/ [TIM2_TRIG](3)/ LCD_COM0(2)/ADC1_IN2/COMP1_INP, 5 PA5/TIM3_BKIN/ [TIM3_TRIG](3)/ LCD_COM1(2)/ADC1_IN1/COMP1_INP, 6 PA6/[ADC1_TRIG](3)/LCD_COM2(2)/ADC1_IN0/COMP1_INP, 7 VSS/VSSA/VREF-, 8 VDD/VDDA/VREF+, 9 PD0/TIM3_CH2/ [ADC1_TRIG](3)/ADC1_IN22/COMP2_INP/COMP1_INP/VLCD(2), 10 PD1/TIM1_CH3N/[TIM3_T RIG](3)/LCD_COM3(2)/ADC1_IN21/COMP2_INP/COMP1_INP, 11 PD2/TIM1_CH1/LCD_SEG8(2)/ ADC1_IN20/COMP1_INP, 12 PD3/TIM1_TRIG/LCD_SEG9(2)/ADC1_IN19/COMP1_INP, 13 PB0/TIM2_CH1/ LCD_SEG10(2)/ ADC1_IN18/COMP1_INP, 14 PB1/TIM3_CH1/ LCD_SEG11(2)/ ADC1_IN17/COMP1_INP, 15 PB2/TIM2_CH2/ LCD_SEG12(2)/ ADC1_IN16/COMP1_INP, 16 PB3/[TIM2_TRIG](3)/TIM1_CH2N/LCD_SEG13(2)/ADC1_IN15/COMP1_INP, 17 PB4/[SPI1_NSS](3)/LCD_SEG14(2)/ADC1_IN14/ COMP1_INP/DAC_OUT, 18 PB5/[SPI1_SCK](3)/LCD_SEG15(2)/ADC1_IN13/DAC_OUT/COMP1_INP, 19 PB6/[SPI1_MOSI](3)/LCD_SEG16(2)/ ADC1_IN12/COMP1_INP/DAC_OUT, 20 PB7/[SPI1_MISO](3)/LCD_SEG17(2)/ ADC1_IN11/COMP1_INP, 21 PD4/TIM1_CH2 /LCD_SEG18(2)/ADC1_IN10/COMP1_INP, 22 PD5/TIM1_CH3 /LCD_SEG19(2)/ADC1_IN9/COMP1_INP, 23 PD6/TIM1_BKIN /LCD_SEG20(2)/ADC1_IN8/RTC_CALIB/VREF_OUT/ COMP1_INP, 24 PD7/TIM1_CH1N /LCD_SEG21(2)/ADC1_IN7/RTC_ALARM/VREF_OUT/ COMP1_INP, 25 PC0/I2C1_SDA, 26 PC1/I2C1_SCL, 27 PC2/[USART1_RX](3)/LCD_SEG22/ADC1_IN6/COMP1_INP/VREF_OUT, 28 PC3/[USART1_TX](3)/LCD_SEG23(2)/ADC1_IN5/COMP1_INP/COMP2_INM, 29 PC4/[USART1_CK](3)/I2C1_SMB/CCO/ LCD_SEG24(2)/ADC1_IN4/COMP2_INM/COMP1_INP, 30 PC5/OSC32_IN/[SPI1_NSS](3)/[USART1_TX](3), 31 PC6/OSC32_OUT/[SPI1_SCK](3)/ [USART1_RX](3), 32 PA0/[USART1_CK](3)/SWIM/BEEP/IR_TIM (6)
text: QFN32(5X5)/LQFP32(7X7)

## STM8L151_F_QFN20
designator *
pins: 1 PA1/NRST, 2 PA2/OSC_IN/[USART_TX](2)/[SPI_MISO](2), 3 PA3/OSC_OUT/[USART_RX](2)/[SPI_MOSI](2), 4 VSS/VSSA/VREF-, 5 VDD/VDDA/VREF+, 6 PD0/TIM3_CH2/[ADC1_TRIG](2)/ADC1_IN22, 7 PB0(3)/TIM2_CH1/ADC1_IN18, 8 PB1/TIM3_CH1/ADC1_IN17, 9 PB2/TIM2_CH2/ADC1_IN16, 10 PB3/TIM2_ETR/ADC1_IN15/RTC_ALARM(4), 11 PB4(3)/SPI1_NSS/ADC1_IN14, 12 PB5/SPI_SCK/ADC1_IN13, 13 PB6/SPI1_MOSI/ADC1_IN12, 14 PB7/SPI1_MISO/ADC1_IN11, 15 PC0/I2C_SDA, 16 PC1/I2C_SCL, 17 PC4/USART_CK]/I2C_SMB/CCO/ADC1_IN4, 18 PC5/OSC32_IN/[SPI1_NSS](2)/[USART_TX](2)/TIM2_CH1(6), 19 PC6/OSC32_OUT/[SPI_SCK](2)/[USART_RX](2)/TIM2_CH2(6), 20 PA0(8)/[USART_CK](2)/SWIM/BEEP/IR_TIM(9)
text: QFN20

## STM8L151_F_TSSOP20
designator *
pins: 1 PC5/OSC32_IN/[SPI1_NSS](2)/[USART_TX](2)/TIM2_CH1(6), 2 PC6/OSC32_OUT/[SPI_SCK](2)/ [USART_RX](2)/TIM2_CH2(6), 3 PA0(8)/[USART_CK](2)/SWIM/BEEP/IR_TIM(9), 4 NRST/PA1, 5 PA2/OSC_IN/[USART_TX](2)/[SPI_MISO](2), 6 PA3/OSC_OUT/[USA RT_RX](2)/[SPI_MOSI](2), 7 VSS/VREF-/VSSA , 8 VDD/VREF+/VDDA, 9 PD0/TIM3_CH2/[ADC1_TRIG](2)/ADC1_IN22, 10 PB0(3)/TIM2_CH1/ADC1_IN18, 11 PB1/TIM3_CH1/ADC1_IN17, 12 PB2/TIM2_CH2/ADC1_IN16, 13 PB3/TIM2_ETR/ADC1_IN15/RTC_ALARM(4), 14 PB4(3)/SPI1_NSS/ADC1_IN14, 15 PB5/SPI_SCK/ADC1_IN13, 16 PB6/SPI1_MOSI/ADC1_IN12, 17 PB7/SPI1_MISO/ADC1_IN11, 18 PC0/I2C_SDA, 19 PC1/I2C_SCL, 20 PC4/USART_CK]/I2C_SMB/CCO/ADC1_IN4
text: TSSOP20

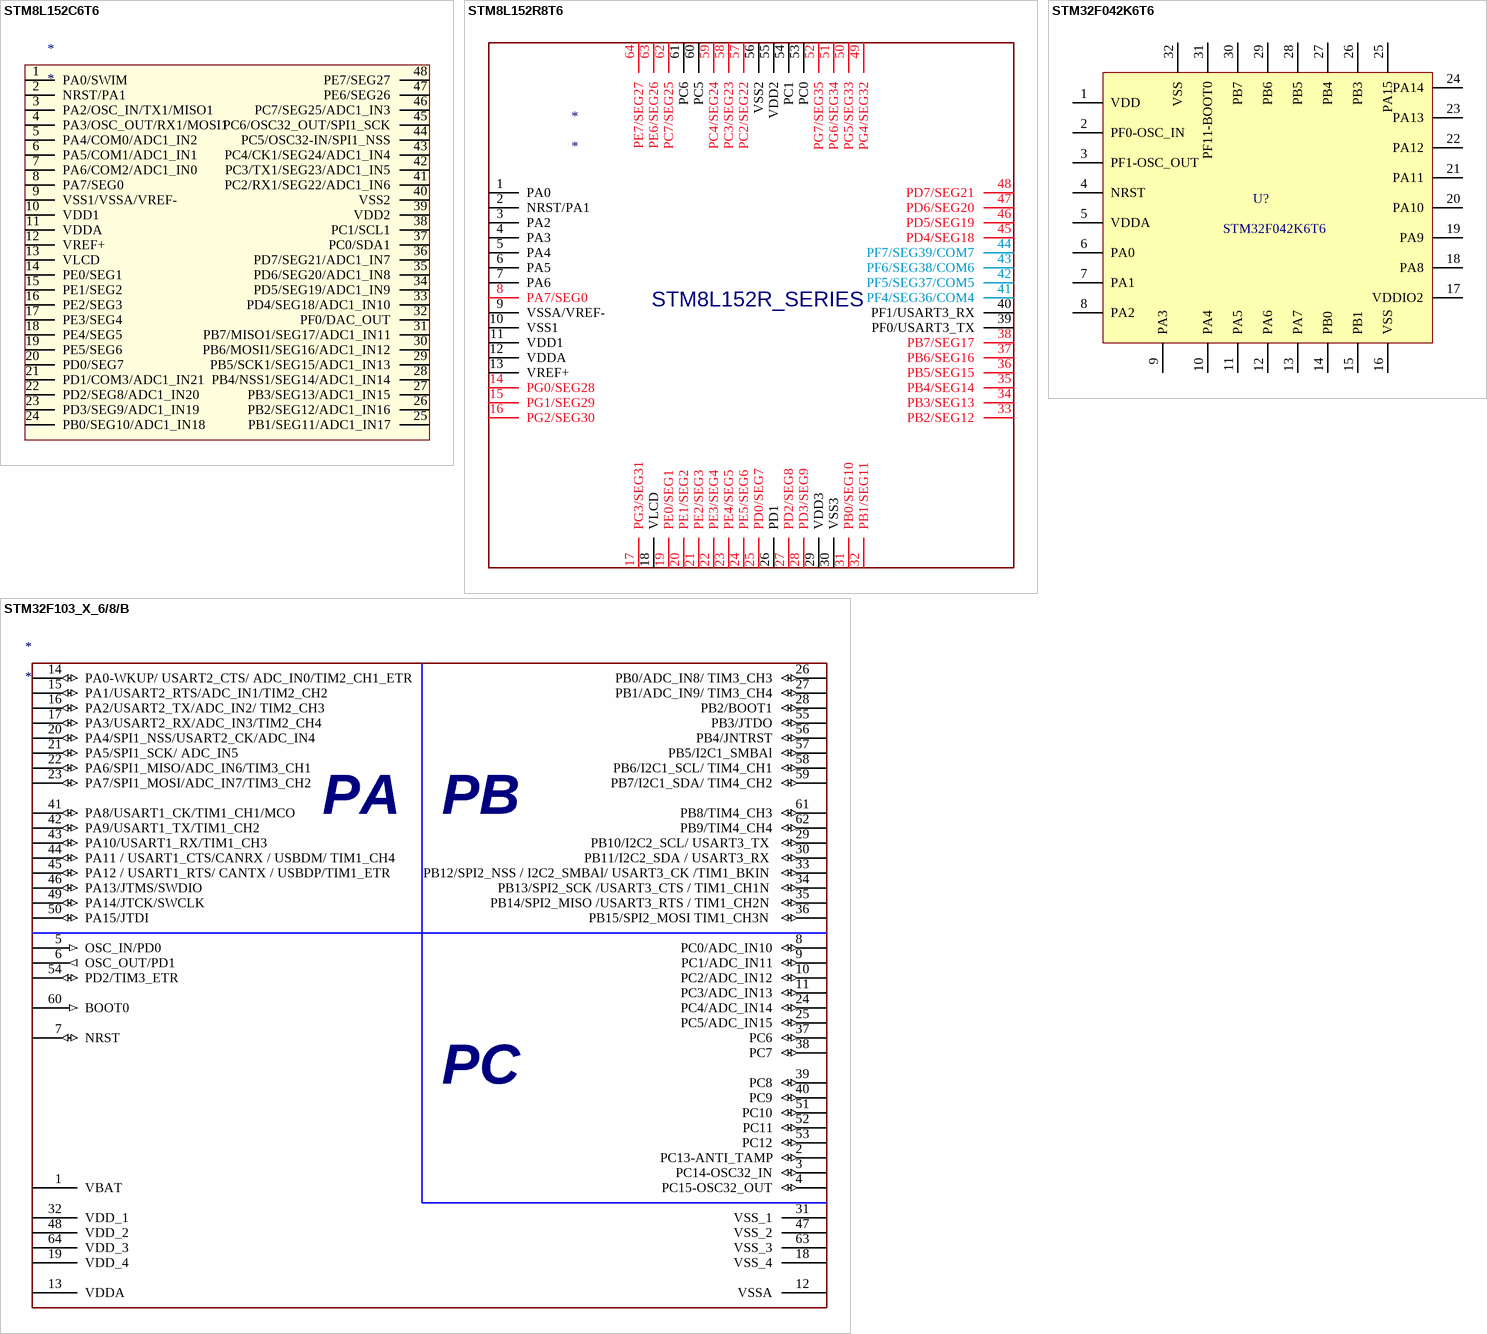
[diagram p4: symbols STM8L152C6T6 to STM32F103_X_6/8/B]

## STM8L152C6T6
designator *
pins: 1 PA0/SWIM, 2 NRST/PA1, 3 PA2/OSC_IN/TX1/MISO1, 4 PA3/OSC_OUT/RX1/MOSI1, 5 PA4/COM0/ADC1_IN2, 6 PA5/COM1/ADC1_IN1, 7 PA6/COM2/ADC1_IN0, 8 PA7/SEG0, 9 VSS1/VSSA/VREF-, 10 VDD1, 11 VDDA, 12 VREF+, 13 VLCD, 14 PE0/SEG1, 15 PE1/SEG2, 16 PE2/SEG3, 17 PE3/SEG4, 18 PE4/SEG5, 19 PE5/SEG6, 20 PD0/SEG7, 21 PD1/COM3/ADC1_IN21, 22 PD2/SEG8/ADC1_IN20, 23 PD3/SEG9/ADC1_IN19, 24 PB0/SEG10/ADC1_IN18, 25 PB1/SEG11/ADC1_IN17, 26 PB2/SEG12/ADC1_IN16, 27 PB3/SEG13/ADC1_IN15, 28 PB4/NSS1/SEG14/ADC1_IN14, 29 PB5/SCK1/SEG15/ADC1_IN13, 30 PB6/MOSI1/SEG16/ADC1_IN12, 31 PB7/MISO1/SEG17/ADC1_IN11, 32 PF0/DAC_OUT, 33 PD4/SEG18/ADC1_IN10, 34 PD5/SEG19/ADC1_IN9, 35 PD6/SEG20/ADC1_IN8, 36 PD7/SEG21/ADC1_IN7, 37 PC0/SDA1, 38 PC1/SCL1, 39 VDD2, 40 VSS2, 41 PC2/RX1/SEG22/ADC1_IN6, 42 PC3/TX1/SEG23/ADC1_IN5, 43 PC4/CK1/SEG24/ADC1_IN4, 44 PC5/OSC32-IN/SPI1_NSS, 45 PC6/OSC32_OUT/SPI1_SCK, 46 PC7/SEG25/ADC1_IN3, 47 PE6/SEG26, 48 PE7/SEG27

## STM8L152R8T6
designator *
pins: 1 PA0, 2 NRST/PA1, 3 PA2, 4 PA3, 5 PA4, 6 PA5, 7 PA6, 8 PA7/SEG0, 9 VSSA/VREF-, 10 VSS1, 11 VDD1, 12 VDDA, 13 VREF+, 14 PG0/SEG28, 15 PG1/SEG29, 16 PG2/SEG30, 17 PG3/SEG31, 18 VLCD, 19 PE0/SEG1, 20 PE1/SEG2, 21 PE2/SEG3, 22 PE3/SEG4, 23 PE4/SEG5, 24 PE5/SEG6, 25 PD0/SEG7, 26 PD1, 27 PD2/SEG8, 28 PD3/SEG9, 29 VDD3, 30 VSS3, 31 PB0/SEG10, 32 PB1/SEG11, 33 PB2/SEG12, 34 PB3/SEG13, 35 PB4/SEG14, 36 PB5/SEG15, 37 PB6/SEG16, 38 PB7/SEG17, 39 PF0/USART3_TX, 40 PF1/USART3_RX, 41 PF4/SEG36/COM4, 42 PF5/SEG37/COM5, 43 PF6/SEG38/COM6, 44 PF7/SEG39/COM7, 45 PD4/SEG18, 46 PD5/SEG19, 47 PD6/SEG20, 48 PD7/SEG21, 49 PG4/SEG32, 50 PG5/SEG33, 51 PG6/SEG34, 52 PG7/SEG35, 53 PC0, 54 PC1, 55 VDD2, 56 VSS2, 57 PC2/SEG22, 58 PC3/SEG23, 59 PC4/SEG24, 60 PC5, 61 PC6, 62 PC7/SEG25, 63 PE6/SEG26, 64 PE7/SEG27
text: STM8L152R_SERIES

## STM32F042K6T6
designator U?
footprint STM32F042K6T6_LQFP32
pins: 1 VDD, 2 PF0-OSC_IN, 3 PF1-OSC_OUT, 4 NRST, 5 VDDA, 6 PA0, 7 PA1, 8 PA2, 9 PA3, 10 PA4, 11 PA5, 12 PA6, 13 PA7, 14 PB0, 15 PB1, 16 VSS, 17 VDDIO2, 18 PA8, 19 PA9, 20 PA10, 21 PA11, 22 PA12, 23 PA13, 24 PA14, 25 PA15, 26 PB3, 27 PB4, 28 PB5, 29 PB6, 30 PB7, 31 PF11-BOOT0, 32 VSS

## STM32F103_X_6/8/B
designator *
pins: 1 VBAT (power), 2 PC13-ANTI_TAMP (io), 3 PC14-OSC32_IN (io), 4 PC15-OSC32_OUT (io), 5 OSC_IN/PD0 (in), 6 OSC_OUT/PD1 (out), 7 NRST (io), 8 PC0/ADC_IN10 (io), 9 PC1/ADC_IN11 (io), 10 PC2/ADC_IN12 (io), 11 PC3/ADC_IN13 (io), 12 VSSA (power), 13 VDDA (power), 14 PA0-WKUP/ USART2_CTS/ ADC_IN0/TIM2_CH1_ETR (io), 15 PA1/USART2_RTS/ADC_IN1/TIM2_CH2 (io), 16 PA2/USART2_TX/ADC_IN2/ TIM2_CH3 (io), 17 PA3/USART2_RX/ADC_IN3/TIM2_CH4 (io), 18 VSS_4 (power), 19 VDD_4 (power), 20 PA4/SPI1_NSS/USART2_CK/ADC_IN4 (io), 21 PA5/SPI1_SCK/ ADC_IN5 (io), 22 PA6/SPI1_MISO/ADC_IN6/TIM3_CH1 (io), 23 PA7/SPI1_MOSI/ADC_IN7/TIM3_CH2 (io), 24 PC4/ADC_IN14 (io), 25 PC5/ADC_IN15 (io), 26 PB0/ADC_IN8/ TIM3_CH3 (io), 27 PB1/ADC_IN9/ TIM3_CH4 (io), 28 PB2/BOOT1 (io), 29 PB10/I2C2_SCL/ USART3_TX  (io), 30 PB11/I2C2_SDA / USART3_RX  (io), 31 VSS_1 (power), 32 VDD_1 (power), 33 PB12/SPI2_NSS / I2C2_SMBAl/ USART3_CK /TIM1_BKIN  (io), 34 PB13/SPI2_SCK /USART3_CTS / TIM1_CH1N  (io), 35 PB14/SPI2_MISO /USART3_RTS / TIM1_CH2N  (io), 36 PB15/SPI2_MOSI TIM1_CH3N  (io), 37 PC6 (io), 38 PC7 (io), 39 PC8 (io), 40 PC9 (io), 41 PA8/USART1_CK/TIM1_CH1/MCO  (io), 42 PA9/USART1_TX/TIM1_CH2  (io), 43 PA10/USART1_RX/TIM1_CH3  (io), 44 PA11 / USART1_CTS/CANRX / USBDM/ TIM1_CH4  (io), 45 PA12 / USART1_RTS/ CANTX / USBDP/TIM1_ETR  (io), 46 PA13/JTMS/SWDIO (io), 47 VSS_2 (power), 48 VDD_2 (power), 49 PA14/JTCK/SWCLK (io), 50 PA15/JTDI (io), 51 PC10 (io), 52 PC11 (io), 53 PC12 (io), 54 PD2/TIM3_ETR (io), 55 PB3/JTDO (io), 56 PB4/JNTRST (io), 57 PB5/I2C1_SMBAl (io), 58 PB6/I2C1_SCL/ TIM4_CH1 (io), 59 PB7/I2C1_SDA/ TIM4_CH2 (io), 60 BOOT0 (in), 61 PB8/TIM4_CH3 (io), 62 PB9/TIM4_CH4 (io), 63 VSS_3 (power), 64 VDD_3 (power)
text: PA; PB; PC

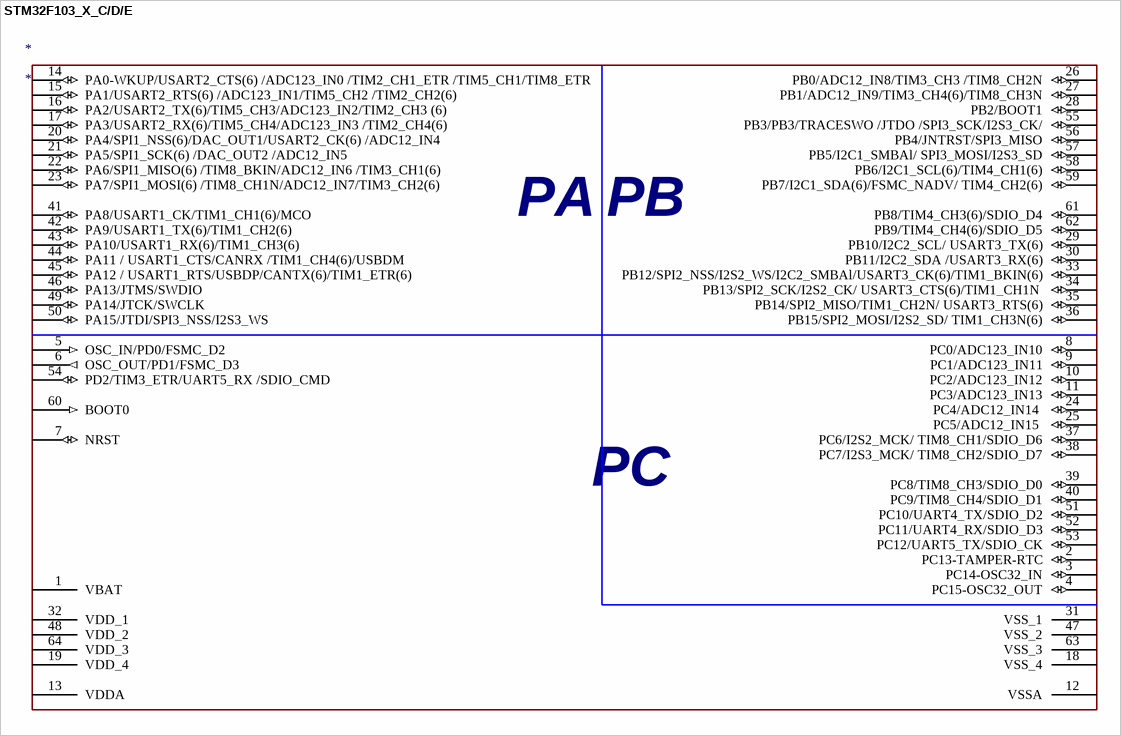
[diagram p5: symbol STM32F103_X_C/D/E]

## STM32F103_X_C/D/E
designator *
pins: 1 VBAT (power), 2 PC13-TAMPER-RTC (io), 3 PC14-OSC32_IN (io), 4 PC15-OSC32_OUT (io), 5 OSC_IN/PD0/FSMC_D2 (in), 6 OSC_OUT/PD1/FSMC_D3 (out), 7 NRST (io), 8 PC0/ADC123_IN10 (io), 9 PC1/ADC123_IN11 (io), 10 PC2/ADC123_IN12 (io), 11 PC3/ADC123_IN13 (io), 12 VSSA (power), 13 VDDA (power), 14 PA0-WKUP/USART2_CTS(6) /ADC123_IN0 /TIM2_CH1_ETR /TIM5_CH1/TIM8_ETR (io), 15 PA1/USART2_RTS(6) /ADC123_IN1/TIM5_CH2 /TIM2_CH2(6) (io), 16 PA2/USART2_TX(6)/TIM5_CH3/ADC123_IN2/TIM2_CH3 (6) (io), 17 PA3/USART2_RX(6)/TIM5_CH4/ADC123_IN3 /TIM2_CH4(6) (io), 18 VSS_4 (power), 19 VDD_4 (power), 20 PA4/SPI1_NSS(6)/DAC_OUT1/USART2_CK(6) /ADC12_IN4  (io), 21 PA5/SPI1_SCK(6) /DAC_OUT2 /ADC12_IN5  (io), 22 PA6/SPI1_MISO(6) /TIM8_BKIN/ADC12_IN6 /TIM3_CH1(6) (io), 23 PA7/SPI1_MOSI(6) /TIM8_CH1N/ADC12_IN7/TIM3_CH2(6) (io), 24 PC4/ADC12_IN14  (io), 25 PC5/ADC12_IN15  (io), 26 PB0/ADC12_IN8/TIM3_CH3 /TIM8_CH2N (io), 27 PB1/ADC12_IN9/TIM3_CH4(6)/TIM8_CH3N (io), 28 PB2/BOOT1 (io), 29 PB10/I2C2_SCL/ USART3_TX(6) (io), 30 PB11/I2C2_SDA /USART3_RX(6) (io), 31 VSS_1 (power), 32 VDD_1 (power), 33 PB12/SPI2_NSS/I2S2_WS/I2C2_SMBAl/USART3_CK(6)/TIM1_BKIN(6) (io), 34 PB13/SPI2_SCK/I2S2_CK/ USART3_CTS(6)/TIM1_CH1N  (io), 35 PB14/SPI2_MISO/TIM1_CH2N/ USART3_RTS(6) (io), 36 PB15/SPI2_MOSI/I2S2_SD/ TIM1_CH3N(6) (io), 37 PC6/I2S2_MCK/ TIM8_CH1/SDIO_D6 (io), 38 PC7/I2S3_MCK/ TIM8_CH2/SDIO_D7 (io), 39 PC8/TIM8_CH3/SDIO_D0 (io), 40 PC9/TIM8_CH4/SDIO_D1 (io), 41 PA8/USART1_CK/TIM1_CH1(6)/MCO  (io), 42 PA9/USART1_TX(6)/TIM1_CH2(6) (io), 43 PA10/USART1_RX(6)/TIM1_CH3(6) (io), 44 PA11 / USART1_CTS/CANRX /TIM1_CH4(6)/USBDM (io), 45 PA12 / USART1_RTS/USBDP/CANTX(6)/TIM1_ETR(6) (io), 46 PA13/JTMS/SWDIO (io), 47 VSS_2 (power), 48 VDD_2 (power), 49 PA14/JTCK/SWCLK (io), 50 PA15/JTDI/SPI3_NSS/I2S3_WS (io), 51 PC10/UART4_TX/SDIO_D2 (io), 52 PC11/UART4_RX/SDIO_D3 (io), 53 PC12/UART5_TX/SDIO_CK (io), 54 PD2/TIM3_ETR/UART5_RX /SDIO_CMD (io), 55 PB3/PB3/TRACESWO /JTDO /SPI3_SCK/I2S3_CK/ (io), 56 PB4/JNTRST/SPI3_MISO (io), 57 PB5/I2C1_SMBAl/ SPI3_MOSI/I2S3_SD (io), 58 PB6/I2C1_SCL(6)/TIM4_CH1(6) (io), 59 PB7/I2C1_SDA(6)/FSMC_NADV/ TIM4_CH2(6) (io), 60 BOOT0 (in), 61 PB8/TIM4_CH3(6)/SDIO_D4 (io), 62 PB9/TIM4_CH4(6)/SDIO_D5 (io), 63 VSS_3 (power), 64 VDD_3 (power)
text: PA; PB; PC

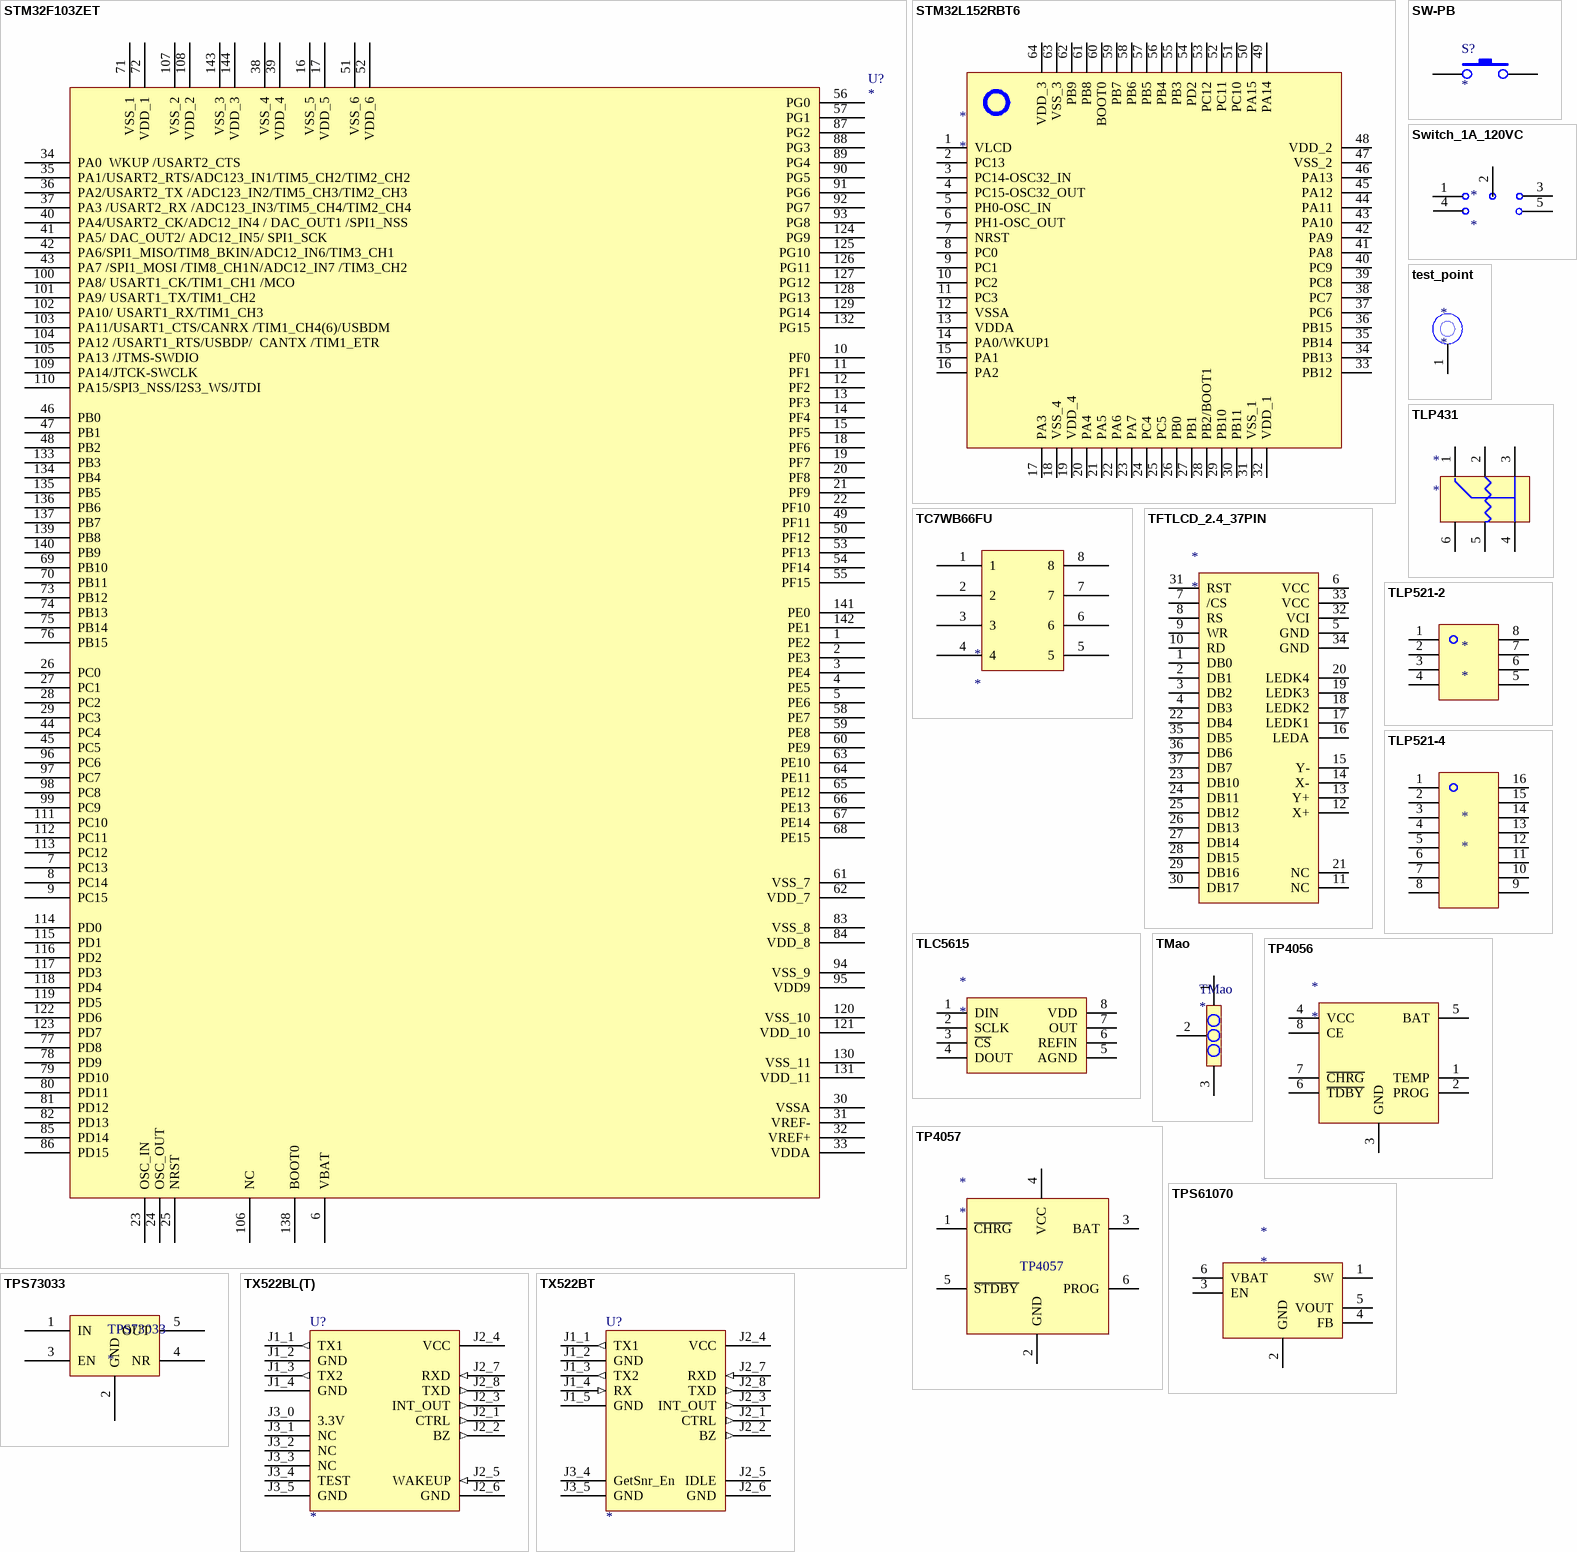
[diagram p6: symbols STM32F103ZET to TX522BT]

## STM32F103ZET
designator U?
footprint LQFP144
pins: 1 PE2, 2 PE3, 3 PE4, 4 PE5, 5 PE6, 6 VBAT, 7 PC13, 8 PC14, 9 PC15, 10 PF0, 11 PF1, 12 PF2, 13 PF3, 14 PF4, 15 PF5, 16 VSS_5, 17 VDD_5, 18 PF6, 19 PF7, 20 PF8, 21 PF9, 22 PF10, 23 OSC_IN, 24 OSC_OUT, 25 NRST, 26 PC0, 27 PC1, 28 PC2, 29 PC3, 30 VSSA, 31 VREF-, 32 VREF+, 33 VDDA, 34 PA0  WKUP /USART2_CTS, 35 PA1/USART2_RTS/ADC123_IN1/TIM5_CH2/TIM2_CH2, 36 PA2/USART2_TX /ADC123_IN2/TIM5_CH3/TIM2_CH3, 37 PA3 /USART2_RX /ADC123_IN3/TIM5_CH4/TIM2_CH4, 38 VSS_4, 39 VDD_4, 40 PA4/USART2_CK/ADC12_IN4 / DAC_OUT1 /SPI1_NSS, 41 PA5/ DAC_OUT2/ ADC12_IN5/ SPI1_SCK, 42 PA6/SPI1_MISO/TIM8_BKIN/ADC12_IN6/TIM3_CH1, 43 PA7 /SPI1_MOSI /TIM8_CH1N/ADC12_IN7 /TIM3_CH2, 44 PC4, 45 PC5, 46 PB0, 47 PB1, 48 PB2, 49 PF11, 50 PF12, 51 VSS_6, 52 VDD_6, 53 PF13, 54 PF14, 55 PF15, 56 PG0, 57 PG1, 58 PE7, 59 PE8, 60 PE9, 61 VSS_7, 62 VDD_7, 63 PE10, 64 PE11, 65 PE12, 66 PE13, 67 PE14, 68 PE15, 69 PB10, 70 PB11, 71 VSS_1, 72 VDD_1, 73 PB12, 74 PB13, 75 PB14, 76 PB15, 77 PD8, 78 PD9, 79 PD10, 80 PD11, 81 PD12, 82 PD13, 83 VSS_8, 84 VDD_8, 85 PD14, 86 PD15, 87 PG2, 88 PG3, 89 PG4, 90 PG5, 91 PG6, 92 PG7, 93 PG8, 94 VSS_9, 95 VDD9, 96 PC6, 97 PC7, 98 PC8, 99 PC9, 100 PA8/ USART1_CK/TIM1_CH1 /MCO, 101 PA9/ USART1_TX/TIM1_CH2, 102 PA10/ USART1_RX/TIM1_CH3, 103 PA11/USART1_CTS/CANRX /TIM1_CH4(6)/USBDM, 104 PA12 /USART1_RTS/USBDP/  CANTX /TIM1_ETR, 105 PA13 /JTMS-SWDIO, 106 NC, 107 VSS_2, 108 VDD_2, 109 PA14/JTCK-SWCLK, 110 PA15/SPI3_NSS/I2S3_WS/JTDI, 111 PC10, 112 PC11, 113 PC12, 114 PD0, 115 PD1, 116 PD2, 117 PD3, 118 PD4, 119 PD5, 120 VSS_10, 121 VDD_10, 122 PD6, 123 PD7, 124 PG9, 125 PG10, 126 PG11, 127 PG12, 128 PG13, 129 PG14, 130 VSS_11, 131 VDD_11, 132 PG15, 133 PB3, 134 PB4, 135 PB5, 136 PB6, 137 PB7, 138 BOOT0, 139 PB8, 140 PB9, 141 PE0, 142 PE1, 143 VSS_3, 144 VDD_3

## STM32L152RBT6
designator *
pins: 1 VLCD, 2 PC13, 3 PC14-OSC32_IN, 4 PC15-OSC32_OUT, 5 PH0-OSC_IN, 6 PH1-OSC_OUT, 7 NRST, 8 PC0, 9 PC1, 10 PC2, 11 PC3, 12 VSSA, 13 VDDA, 14 PA0/WKUP1, 15 PA1, 16 PA2, 17 PA3, 18 VSS_4, 19 VDD_4, 20 PA4, 21 PA5, 22 PA6, 23 PA7, 24 PC4, 25 PC5, 26 PB0, 27 PB1, 28 PB2/BOOT1, 29 PB10, 30 PB11, 31 VSS_1, 32 VDD_1, 33 PB12, 34 PB13, 35 PB14, 36 PB15, 37 PC6, 38 PC7, 39 PC8, 40 PC9, 41 PA8, 42 PA9, 43 PA10, 44 PA11, 45 PA12, 46 PA13, 47 VSS_2, 48 VDD_2, 49 PA14, 50 PA15, 51 PC10, 52 PC11, 53 PC12, 54 PD2, 55 PB3, 56 PB4, 57 PB5, 58 PB6, 59 PB7, 60 BOOT0, 61 PB8, 62 PB9, 63 VSS_3, 64 VDD_3

## SW-PB
designator S?
pins: 1, 2

## Switch_1A_120VC
designator *
pins: 1, 2, 3, 4, 5

## TC7WB66FU
designator *
pins: 1, 2, 3, 4, 5, 6, 7, 8

## test_point
designator *
pins: 1

## TFTLCD_2.4_37PIN
designator *
pins: 1 DB0, 2 DB1, 3 DB2, 4 DB3, 5 GND, 6 VCC, 7 /CS, 8 RS, 9 WR, 10 RD, 11 NC, 12 X+, 13 Y+, 14 X-, 15 Y-, 16 LEDA, 17 LEDK1, 18 LEDK2, 19 LEDK3, 20 LEDK4, 21 NC, 22 DB4, 23 DB10, 24 DB11, 25 DB12, 26 DB13, 27 DB14, 28 DB15, 29 DB16, 30 DB17, 31 RST, 32 VCI, 33 VCC, 34 GND, 35 DB5, 36 DB6, 37 DB7

## TLC5615
designator *
pins: 1 DIN, 2 SCLK, 3 ~{CS}, 4 DOUT, 5 AGND, 6 REFIN, 7 OUT, 8 VDD

## TLP431
designator *
pins: 1, 2, 3, 4, 5, 6

## TLP521-2
designator *
pins: 1 5, 2 6, 3 7, 4 8, 5 9, 6 10, 7 11, 8 12

## TLP521-4
designator *
pins: 1 5, 2 6, 3 7, 4 8, 5 9, 6 10, 7 11, 8 12, 9 13, 10 14, 11 15, 12 16, 13 17, 14 18, 15 19, 16 20

## TMao
designator TMao
pins: 1, 2, 3

## TP4056
designator *
pins: 1 TEMP, 2 PROG, 3 GND, 4 VCC, 5 BAT, 6 ~{TDBY}, 7 ~{CHRG}, 8 CE

## TP4057
designator *
pins: 1 ~{CHRG}, 2 GND, 3 BAT, 4 VCC, 5 ~{STDBY}, 6 PROG

## TPS61070
designator *
pins: 1 SW, 2 GND, 3 EN, 4 FB, 5 VOUT, 6 VBAT

## TPS73033
designator TPS73033
pins: 1 IN, 2 GND, 3 EN, 4 NR, 5 OUT

## TX522BL(T)
designator U?
TX522BL
footprint TX522T
pins: J1_1 TX1 (out), J1_2 GND (power), J1_3 TX2 (out), J1_4 GND (power), J2_1 CTRL (out), J2_2 BZ (out), J2_3 INT_OUT (out), J2_4 VCC (power), J2_5 WAKEUP (in), J2_6 GND (power), J2_7 RXD (in), J2_8 TXD (out), J3_0 3.3V (power), J3_1 NC (power), J3_2 NC (power), J3_3 NC (power), J3_4 TEST (power), J3_5 GND (power)
2 alternate drawings of the same symbol

## TX522BT
designator U?
TX522BT
footprint TX522T
footprint TX500T
pins: J1_1 TX1 (out), J1_2 GND (power), J1_3 TX2 (out), J1_4 RX (in), J1_5 GND (power), J2_1 CTRL (out), J2_2 BZ (out), J2_3 INT_OUT (out), J2_4 VCC (power), J2_5 IDLE, J2_6 GND (power), J2_7 RXD (in), J2_8 TXD (out), J3_4 GetSnr_En (power), J3_5 GND (power)
2 alternate drawings of the same symbol

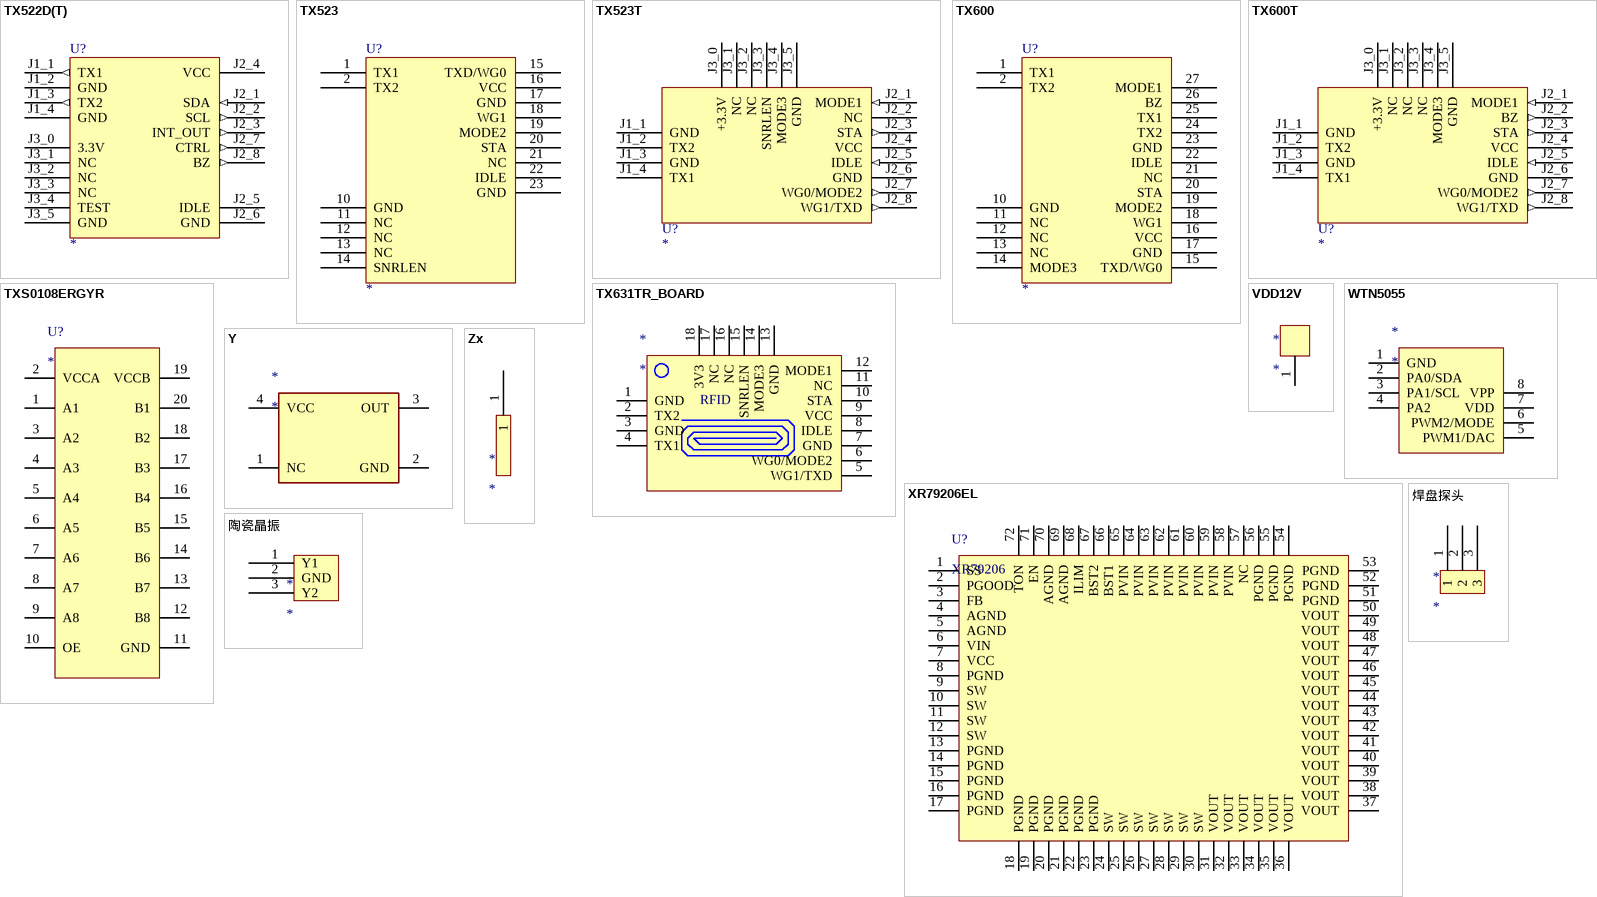
[diagram p7: symbols TX522D(T) to 陶瓷晶振]

## TX522D(T)
designator U?
TX522D
footprint TX522T
pins: J1_1 TX1 (out), J1_2 GND (power), J1_3 TX2 (out), J1_4 GND (power), J2_1 SDA (in), J2_2 SCL (out), J2_3 INT_OUT (out), J2_4 VCC (power), J2_5 IDLE, J2_6 GND (power), J2_7 CTRL (out), J2_8 BZ (out), J3_0 3.3V (power), J3_1 NC (power), J3_2 NC (power), J3_3 NC (power), J3_4 TEST (power), J3_5 GND (power)
2 alternate drawings of the same symbol

## TX523
designator U?
TX523
footprint DIP28
footprint TX500T
pins: 1 TX1, 2 TX2, 10 GND, 11 NC, 12 NC, 13 NC, 14 SNRLEN, 15 TXD/WG0, 16 VCC, 17 GND, 18 WG1, 19 MODE2, 20 STA, 21 NC, 22 IDLE, 23 GND
2 alternate drawings of the same symbol

## TX523T
designator U?
TX523T
footprint TX522T
pins: J1_1 GND (power), J1_2 TX2, J1_3 GND, J1_4 TX1, J2_1 MODE1 (in), J2_2 NC, J2_3 STA (out), J2_4 VCC (power), J2_5 IDLE (in), J2_6 GND (power), J2_7 WG0/MODE2 (out), J2_8 WG1/TXD (out), J3_0 +3.3V, J3_1 NC, J3_2 NC, J3_3 SNRLEN, J3_4 MODE3, J3_5 GND
2 alternate drawings of the same symbol

## TX600
designator U?
TX523
footprint DIP28
pins: 1 TX1, 2 TX2, 10 GND, 11 NC, 12 NC, 13 NC, 14 MODE3, 15 TXD/WG0, 16 VCC, 17 GND, 18 WG1, 19 MODE2, 20 STA, 21 NC, 22 IDLE, 23 GND, 24 TX2, 25 TX1, 26 BZ, 27 MODE1
2 alternate drawings of the same symbol

## TX600T
designator U?
TX523T
footprint TX522T
pins: J1_1 GND (power), J1_2 TX2, J1_3 GND, J1_4 TX1, J2_1 MODE1 (in), J2_2 BZ (out), J2_3 STA (out), J2_4 VCC (power), J2_5 IDLE (in), J2_6 GND (power), J2_7 WG0/MODE2 (out), J2_8 WG1/TXD (out), J3_0 +3.3V, J3_1 NC, J3_2 NC, J3_3 NC, J3_4 MODE3, J3_5 GND
2 alternate drawings of the same symbol

## TX631TR_BOARD
designator *
pins: 1 GND, 2 TX2, 3 GND, 4 TX1, 5 WG1/TXD, 6 WG0/MODE2, 7 GND, 8 IDLE, 9 VCC, 10 STA, 11 NC, 12 MODE1, 13 GND, 14 MODE3, 15 SNRLEN, 16 NC, 17 NC, 18 3V3
text: RFID

## TXS0108ERGYR
designator U?
pins: 1 A1, 2 VCCA, 3 A2, 4 A3, 5 A4, 6 A5, 7 A6, 8 A7, 9 A8, 10 OE, 11 GND, 12 B8, 13 B7, 14 B6, 15 B5, 16 B4, 17 B3, 18 B2, 19 VCCB, 20 B1

## VDD12V
designator *
pins: 1

## WTN5055
designator *
footprint SOP-8
pins: 1 GND, 2 PA0/SDA, 3 PA1/SCL, 4 PA2, 5 PWM1/DAC, 6 PWM2/MODE, 7 VDD, 8 VPP

## XR79206EL
designator U?, comment XR79206
pins: 1 SS, 2 PGOOD, 3 FB, 4 AGND, 5 AGND, 6 VIN, 7 VCC, 8 PGND, 9 SW, 10 SW, 11 SW, 12 SW, 13 PGND, 14 PGND, 15 PGND, 16 PGND, 17 PGND, 18 PGND, 19 PGND, 20 PGND, 21 PGND, 22 PGND, 23 PGND, 24 SW, 25 SW, 26 SW, 27 SW, 28 SW, 29 SW, 30 SW, 31 VOUT, 32 VOUT, 33 VOUT, 34 VOUT, 35 VOUT, 36 VOUT, 37 VOUT, 38 VOUT, 39 VOUT, 40 VOUT, 41 VOUT, 42 VOUT, 43 VOUT, 44 VOUT, 45 VOUT, 46 VOUT, 47 VOUT, 48 VOUT, 49 VOUT, 50 VOUT, 51 PGND, 52 PGND, 53 PGND, 54 PGND, 55 PGND, 56 PGND, 57 NC, 58 PVIN, 59 PVIN, 60 PVIN, 61 PVIN, 62 PVIN, 63 PVIN, 64 PVIN, 65 PVIN, 66 BST1, 67 BST2, 68 ILIM, 69 AGND, 70 AGND, 71 EN, 72 TON

## Y
designator *
pins: 1 NC, 2 GND, 3 OUT, 4 VCC

## Zx
designator *
pins: 1

## 焊盘探头
designator *
pins: 1, 2, 3

## 陶瓷晶振
designator *
pins: 1 Y1, 2 GND, 3 Y2